# Altium integrated library Altera MAX 7000AE.IntLib: 310 symbols (part 1 of 22)
Pins are listed as number, name and electrical type; pins without a type are passive.

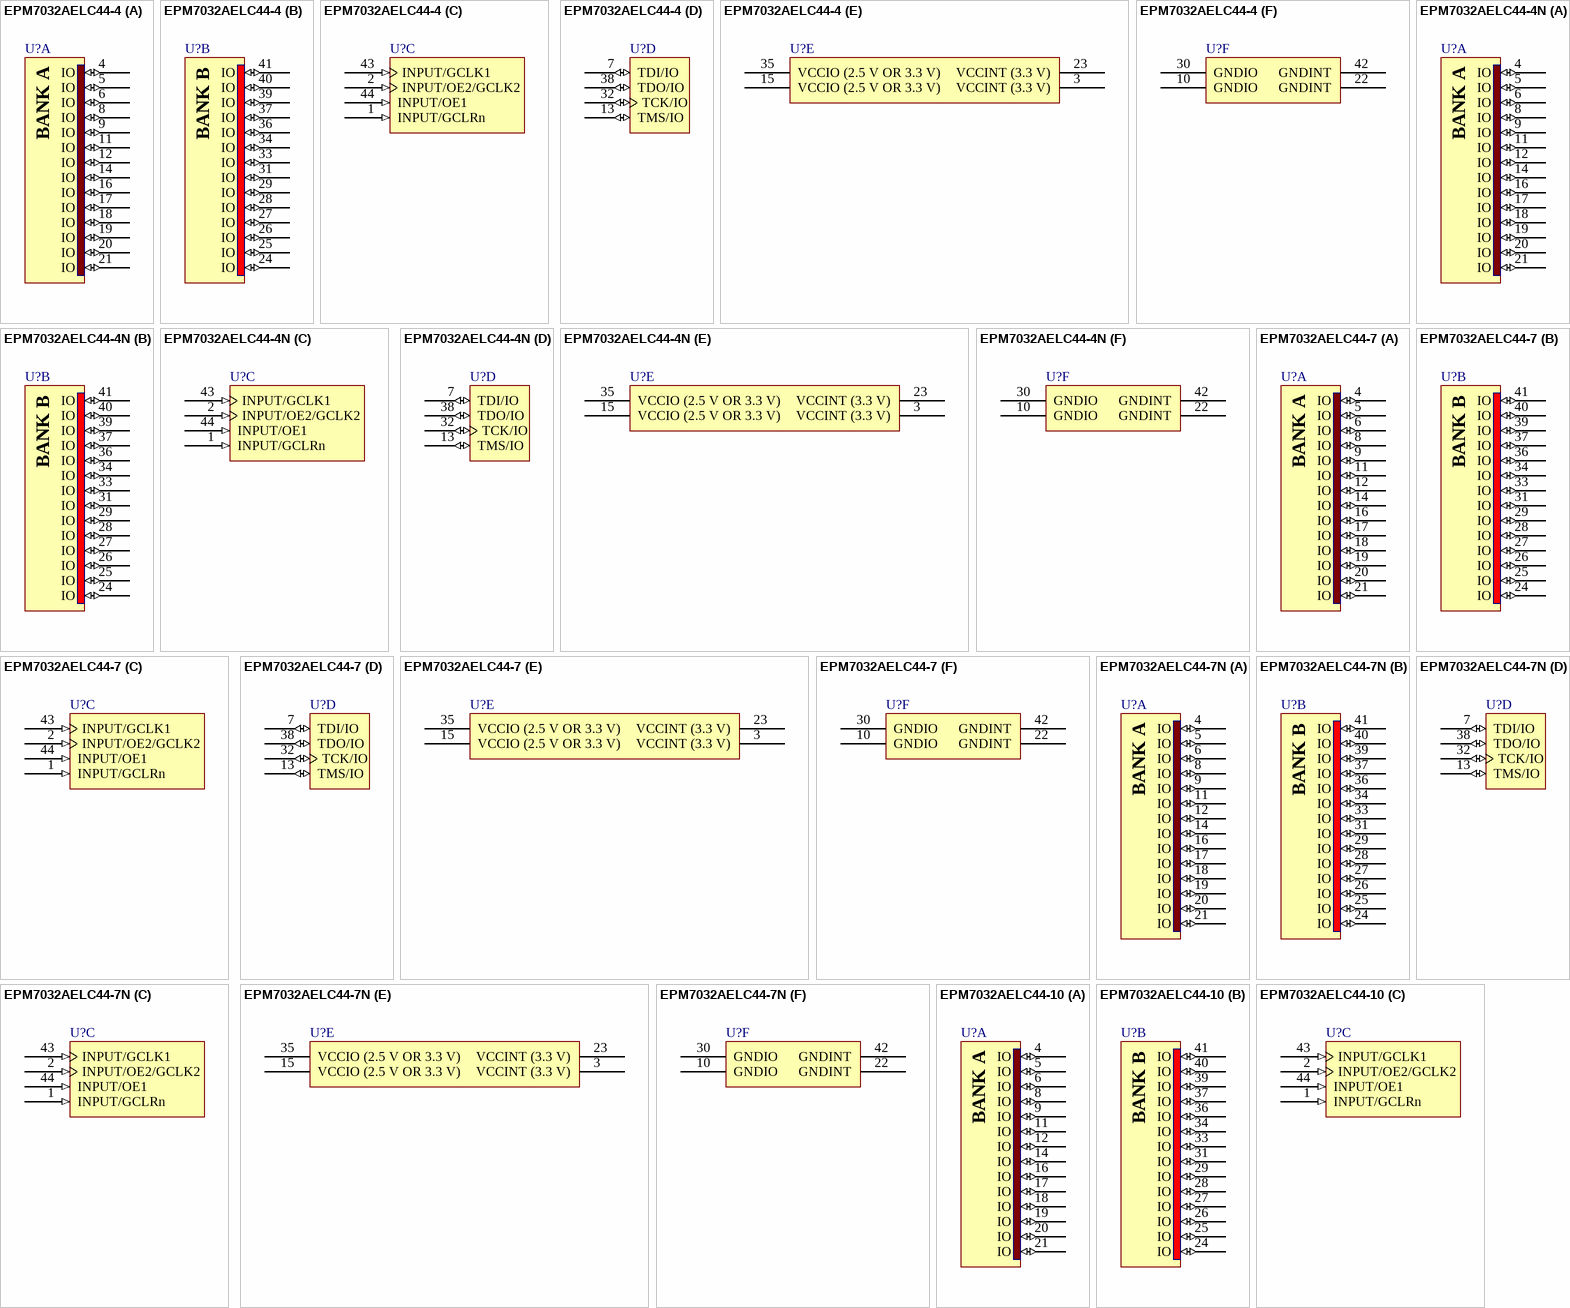
[diagram p0: symbols EPM7032AELC44-4 to EPM7032AELC44-10]

## EPM7032AELC44-4
designator U?
MAX 7000AE 3.3V CPLD, 32 Macrocells, 44-Pin PLCC, Speed Grade 4, Commercial Grade; Published: 23-Sep-2002; LatestRevisionDate: 13-Apr-2006; LatestRevisionNote: IPC-7351 Footprint Added.; DatasheetVersion: ver4.5, Sep-2003; PackageVersion: ver14.3, Jul-2006; PackageReference: PLCC44; Publisher: Altium Limited; PackageDescription: 44-Pin Plastic J-Lead Chip Carrier (PLCC44); Supplier 1: Digi-Key; Supplier Part Number 1: EPM7032AELC44-4-ND; Code_JEDEC: MS-018-AC; Code_IPC: PLCC-44; ComponentLink1Description: Manufacturer Link; ComponentLink1URL: http://www.altera.com/products/devices/max7k/m7k-index.html; ComponentLink2Description: Datasheet; ComponentLink2URL: http://www.altera.com/literature/ds/m7000a.pdf; ComponentLink3Description: Packaging Specification; ComponentLink3URL: http://www.altera.com/literature/ds/dspkg.pdf
footprint PLCC44_N (Leaded Chip Carrier, 44-Leads, Body 16.6x16.6mm, Pitch 1.27mm, IPC Medium Density)
footprint PLCC44_L (Leaded Chip Carrier, 44-Leads, Body 16.6x16.6mm, Pitch 1.27mm, IPC High Density)
footprint PLCC44_M (Leaded Chip Carrier, 44-Leads, Body 16.6x16.6mm, Pitch 1.27mm, IPC Low Density)
3D model EPM7032AE-PLCC44 (44-Pin Plastic J-Lead Chip Carrier (PLCC44))
signal-integrity model max7kae (MAX 7000AE)
part A pins: 4 IO (io), 5 IO (io), 6 IO (io), 8 IO (io), 9 IO (io), 11 IO (io), 12 IO (io), 14 IO (io), 16 IO (io), 17 IO (io), 18 IO (io), 19 IO (io), 20 IO (io), 21 IO (io)
part B pins: 24 IO (io), 25 IO (io), 26 IO (io), 27 IO (io), 28 IO (io), 29 IO (io), 31 IO (io), 33 IO (io), 34 IO (io), 36 IO (io), 37 IO (io), 39 IO (io), 40 IO (io), 41 IO (io)
part C pins: 1 INPUT/GCLRn (in), 2 INPUT/OE2/GCLK2 (in), 43 INPUT/GCLK1 (in), 44 INPUT/OE1 (in)
part D pins: 7 TDI/IO (io), 13 TMS/IO (io), 32 TCK/IO (io), 38 TDO/IO (io)
part E pins: 3 VCCINT (3.3 V) (power), 15 VCCIO (2.5 V OR 3.3 V) (power), 23 VCCINT (3.3 V) (power), 35 VCCIO (2.5 V OR 3.3 V) (power)
part F pins: 10 GNDIO (power), 22 GNDINT (power), 30 GNDIO (power), 42 GNDINT (power)
part A text: BANK A
part B text: BANK B

## EPM7032AELC44-4N
designator U?
MAX 7000AE 3.3V CPLD, 32 Macrocells, 44-Pin PLCC, Speed Grade 4, Commercial Grade, Pb-Free; Published: 18-Aug-2005; LatestRevisionDate: 13-Apr-2006; LatestRevisionNote: IPC-7351 Footprint Added.; DatasheetVersion: ver4.5, Sep-2003; PackageVersion: ver14.3, Jul-2006; PackageReference: PLCC44; Publisher: Altium Limited; PackageDescription: 44-Pin Plastic J-Lead Chip Carrier (PLCC44); Supplier 1: Digi-Key; Supplier Part Number 1: EPM7032AELC44-4N-ND; Code_JEDEC: MS-018-AC; Code_IPC: PLCC-44; ComponentLink1Description: Manufacturer Link; ComponentLink1URL: http://www.altera.com/products/devices/max7k/m7k-index.html; ComponentLink2Description: Datasheet; ComponentLink2URL: http://www.altera.com/literature/ds/m7000a.pdf; ComponentLink3Description: Packaging Specification; ComponentLink3URL: http://www.altera.com/literature/ds/dspkg.pdf
footprint PLCC44_N (Leaded Chip Carrier, 44-Leads, Body 16.6x16.6mm, Pitch 1.27mm, IPC Medium Density)
footprint PLCC44_L (Leaded Chip Carrier, 44-Leads, Body 16.6x16.6mm, Pitch 1.27mm, IPC High Density)
footprint PLCC44_M (Leaded Chip Carrier, 44-Leads, Body 16.6x16.6mm, Pitch 1.27mm, IPC Low Density)
3D model EPM7032AE-PLCC44 (44-Pin Plastic J-Lead Chip Carrier (PLCC44))
signal-integrity model max7kae (MAX 7000AE)
part A pins: 4 IO (io), 5 IO (io), 6 IO (io), 8 IO (io), 9 IO (io), 11 IO (io), 12 IO (io), 14 IO (io), 16 IO (io), 17 IO (io), 18 IO (io), 19 IO (io), 20 IO (io), 21 IO (io)
part B pins: 24 IO (io), 25 IO (io), 26 IO (io), 27 IO (io), 28 IO (io), 29 IO (io), 31 IO (io), 33 IO (io), 34 IO (io), 36 IO (io), 37 IO (io), 39 IO (io), 40 IO (io), 41 IO (io)
part C pins: 1 INPUT/GCLRn (in), 2 INPUT/OE2/GCLK2 (in), 43 INPUT/GCLK1 (in), 44 INPUT/OE1 (in)
part D pins: 7 TDI/IO (io), 13 TMS/IO (io), 32 TCK/IO (io), 38 TDO/IO (io)
part E pins: 3 VCCINT (3.3 V) (power), 15 VCCIO (2.5 V OR 3.3 V) (power), 23 VCCINT (3.3 V) (power), 35 VCCIO (2.5 V OR 3.3 V) (power)
part F pins: 10 GNDIO (power), 22 GNDINT (power), 30 GNDIO (power), 42 GNDINT (power)
part A text: BANK A
part B text: BANK B

## EPM7032AELC44-7
designator U?
MAX 7000AE 3.3V CPLD, 32 Macrocells, 44-Pin PLCC, Speed Grade 7, Commercial Grade; Published: 23-Sep-2002; LatestRevisionDate: 13-Apr-2006; LatestRevisionNote: IPC-7351 Footprint Added.; DatasheetVersion: ver4.5, Sep-2003; PackageVersion: ver14.3, Jul-2006; PackageReference: PLCC44; Publisher: Altium Limited; PackageDescription: 44-Pin Plastic J-Lead Chip Carrier (PLCC44); Supplier 1: Digi-Key; Supplier Part Number 1: 544-1996-ND; Code_JEDEC: MS-018-AC; Code_IPC: PLCC-44; ComponentLink1Description: Manufacturer Link; ComponentLink1URL: http://www.altera.com/products/devices/max7k/m7k-index.html; ComponentLink2Description: Datasheet; ComponentLink2URL: http://www.altera.com/literature/ds/m7000a.pdf; ComponentLink3Description: Packaging Specification; ComponentLink3URL: http://www.altera.com/literature/ds/dspkg.pdf
footprint PLCC44_N (Leaded Chip Carrier, 44-Leads, Body 16.6x16.6mm, Pitch 1.27mm, IPC Medium Density)
footprint PLCC44_L (Leaded Chip Carrier, 44-Leads, Body 16.6x16.6mm, Pitch 1.27mm, IPC High Density)
footprint PLCC44_M (Leaded Chip Carrier, 44-Leads, Body 16.6x16.6mm, Pitch 1.27mm, IPC Low Density)
3D model EPM7032AE-PLCC44 (44-Pin Plastic J-Lead Chip Carrier (PLCC44))
signal-integrity model max7kae (MAX 7000AE)
part A pins: 4 IO (io), 5 IO (io), 6 IO (io), 8 IO (io), 9 IO (io), 11 IO (io), 12 IO (io), 14 IO (io), 16 IO (io), 17 IO (io), 18 IO (io), 19 IO (io), 20 IO (io), 21 IO (io)
part B pins: 24 IO (io), 25 IO (io), 26 IO (io), 27 IO (io), 28 IO (io), 29 IO (io), 31 IO (io), 33 IO (io), 34 IO (io), 36 IO (io), 37 IO (io), 39 IO (io), 40 IO (io), 41 IO (io)
part C pins: 1 INPUT/GCLRn (in), 2 INPUT/OE2/GCLK2 (in), 43 INPUT/GCLK1 (in), 44 INPUT/OE1 (in)
part D pins: 7 TDI/IO (io), 13 TMS/IO (io), 32 TCK/IO (io), 38 TDO/IO (io)
part E pins: 3 VCCINT (3.3 V) (power), 15 VCCIO (2.5 V OR 3.3 V) (power), 23 VCCINT (3.3 V) (power), 35 VCCIO (2.5 V OR 3.3 V) (power)
part F pins: 10 GNDIO (power), 22 GNDINT (power), 30 GNDIO (power), 42 GNDINT (power)
part A text: BANK A
part B text: BANK B

## EPM7032AELC44-7N
designator U?
MAX 7000AE 3.3V CPLD, 32 Macrocells, 44-Pin PLCC, Speed Grade 7, Commercial Grade, Pb-Free; Published: 18-Aug-2005; LatestRevisionDate: 13-Apr-2006; LatestRevisionNote: IPC-7351 Footprint Added.; DatasheetVersion: ver4.5, Sep-2003; PackageVersion: ver14.3, Jul-2006; PackageReference: PLCC44; Publisher: Altium Limited; PackageDescription: 44-Pin Plastic J-Lead Chip Carrier (PLCC44); Supplier 1: Digi-Key; Supplier Part Number 1: EPM7032AELC44-7N-ND; Code_JEDEC: MS-018-AC; Code_IPC: PLCC-44; ComponentLink1Description: Manufacturer Link; ComponentLink1URL: http://www.altera.com/products/devices/max7k/m7k-index.html; ComponentLink2Description: Datasheet; ComponentLink2URL: http://www.altera.com/literature/ds/m7000a.pdf; ComponentLink3Description: Packaging Specification; ComponentLink3URL: http://www.altera.com/literature/ds/dspkg.pdf
footprint PLCC44_N (Leaded Chip Carrier, 44-Leads, Body 16.6x16.6mm, Pitch 1.27mm, IPC Medium Density)
footprint PLCC44_L (Leaded Chip Carrier, 44-Leads, Body 16.6x16.6mm, Pitch 1.27mm, IPC High Density)
footprint PLCC44_M (Leaded Chip Carrier, 44-Leads, Body 16.6x16.6mm, Pitch 1.27mm, IPC Low Density)
3D model EPM7032AE-PLCC44 (44-Pin Plastic J-Lead Chip Carrier (PLCC44))
signal-integrity model max7kae (MAX 7000AE)
part A pins: 4 IO (io), 5 IO (io), 6 IO (io), 8 IO (io), 9 IO (io), 11 IO (io), 12 IO (io), 14 IO (io), 16 IO (io), 17 IO (io), 18 IO (io), 19 IO (io), 20 IO (io), 21 IO (io)
part B pins: 24 IO (io), 25 IO (io), 26 IO (io), 27 IO (io), 28 IO (io), 29 IO (io), 31 IO (io), 33 IO (io), 34 IO (io), 36 IO (io), 37 IO (io), 39 IO (io), 40 IO (io), 41 IO (io)
part C pins: 1 INPUT/GCLRn (in), 2 INPUT/OE2/GCLK2 (in), 43 INPUT/GCLK1 (in), 44 INPUT/OE1 (in)
part D pins: 7 TDI/IO (io), 13 TMS/IO (io), 32 TCK/IO (io), 38 TDO/IO (io)
part E pins: 3 VCCINT (3.3 V) (power), 15 VCCIO (2.5 V OR 3.3 V) (power), 23 VCCINT (3.3 V) (power), 35 VCCIO (2.5 V OR 3.3 V) (power)
part F pins: 10 GNDIO (power), 22 GNDINT (power), 30 GNDIO (power), 42 GNDINT (power)
part A text: BANK A
part B text: BANK B

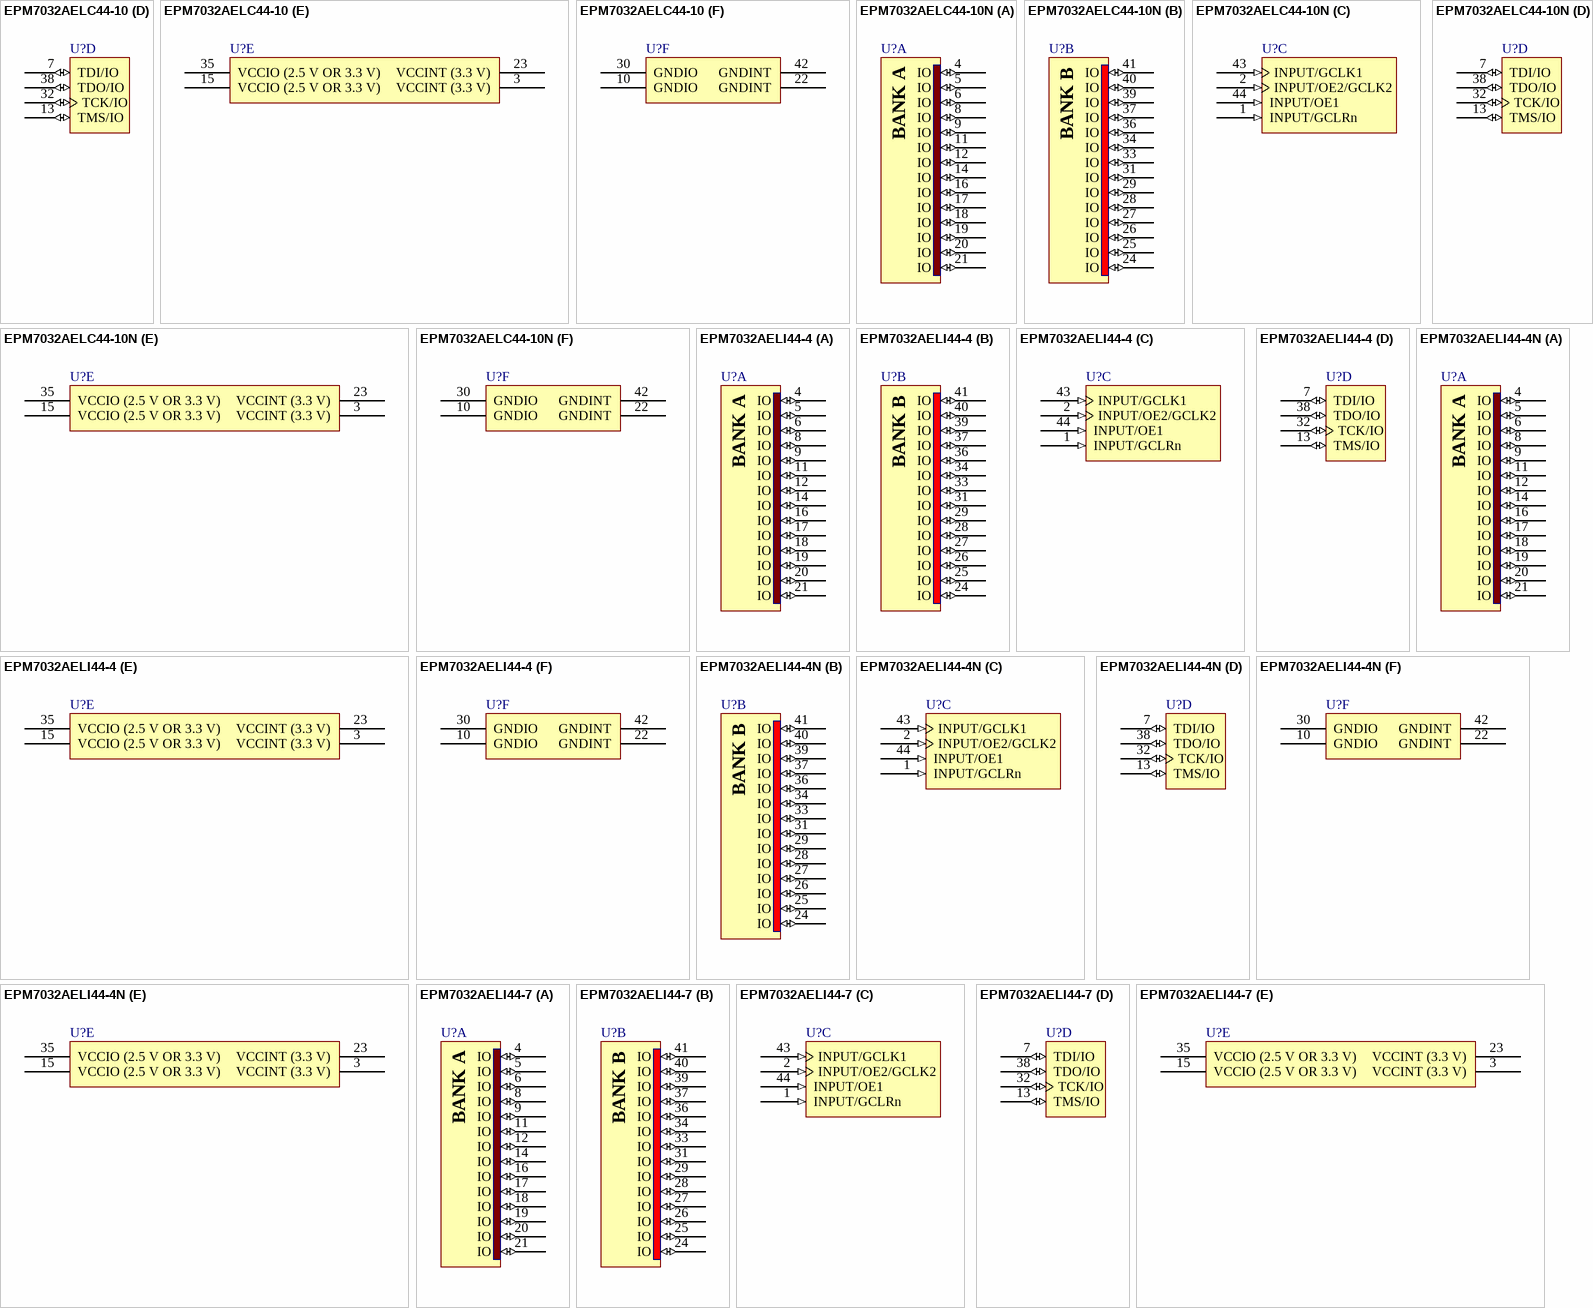
[diagram p1: symbols EPM7032AELC44-10 to EPM7032AELI44-7]

## EPM7032AELC44-10
designator U?
MAX 7000AE 3.3V CPLD, 32 Macrocells, 44-Pin PLCC, Speed Grade 10, Commercial Grade; Published: 23-Sep-2002; LatestRevisionDate: 13-Apr-2006; LatestRevisionNote: IPC-7351 Footprint Added.; DatasheetVersion: ver4.5, Sep-2003; PackageVersion: ver14.3, Jul-2006; PackageReference: PLCC44; Publisher: Altium Limited; PackageDescription: 44-Pin Plastic J-Lead Chip Carrier (PLCC44); Supplier 1: Digi-Key; Supplier Part Number 1: 544-1177-5-ND; Code_JEDEC: MS-018-AC; Code_IPC: PLCC-44; ComponentLink1Description: Manufacturer Link; ComponentLink1URL: http://www.altera.com/products/devices/max7k/m7k-index.html; ComponentLink2Description: Datasheet; ComponentLink2URL: http://www.altera.com/literature/ds/m7000a.pdf; ComponentLink3Description: Packaging Specification; ComponentLink3URL: http://www.altera.com/literature/ds/dspkg.pdf
footprint PLCC44_N (Leaded Chip Carrier, 44-Leads, Body 16.6x16.6mm, Pitch 1.27mm, IPC Medium Density)
footprint PLCC44_L (Leaded Chip Carrier, 44-Leads, Body 16.6x16.6mm, Pitch 1.27mm, IPC High Density)
footprint PLCC44_M (Leaded Chip Carrier, 44-Leads, Body 16.6x16.6mm, Pitch 1.27mm, IPC Low Density)
3D model EPM7032AE-PLCC44 (44-Pin Plastic J-Lead Chip Carrier (PLCC44))
signal-integrity model max7kae (MAX 7000AE)
part A pins: 4 IO (io), 5 IO (io), 6 IO (io), 8 IO (io), 9 IO (io), 11 IO (io), 12 IO (io), 14 IO (io), 16 IO (io), 17 IO (io), 18 IO (io), 19 IO (io), 20 IO (io), 21 IO (io)
part B pins: 24 IO (io), 25 IO (io), 26 IO (io), 27 IO (io), 28 IO (io), 29 IO (io), 31 IO (io), 33 IO (io), 34 IO (io), 36 IO (io), 37 IO (io), 39 IO (io), 40 IO (io), 41 IO (io)
part C pins: 1 INPUT/GCLRn (in), 2 INPUT/OE2/GCLK2 (in), 43 INPUT/GCLK1 (in), 44 INPUT/OE1 (in)
part D pins: 7 TDI/IO (io), 13 TMS/IO (io), 32 TCK/IO (io), 38 TDO/IO (io)
part E pins: 3 VCCINT (3.3 V) (power), 15 VCCIO (2.5 V OR 3.3 V) (power), 23 VCCINT (3.3 V) (power), 35 VCCIO (2.5 V OR 3.3 V) (power)
part F pins: 10 GNDIO (power), 22 GNDINT (power), 30 GNDIO (power), 42 GNDINT (power)
part A text: BANK A
part B text: BANK B

## EPM7032AELC44-10N
designator U?
MAX 7000AE 3.3V CPLD, 32 Macrocells, 44-Pin PLCC, Speed Grade 10, Commercial Grade, Pb-Free; Published: 18-Aug-2005; LatestRevisionDate: 13-Apr-2006; LatestRevisionNote: IPC-7351 Footprint Added.; DatasheetVersion: ver4.5, Sep-2003; PackageVersion: ver14.3, Jul-2006; PackageReference: PLCC44; Publisher: Altium Limited; PackageDescription: 44-Pin Plastic J-Lead Chip Carrier (PLCC44); Supplier 1: Digi-Key; Supplier Part Number 1: 544-1995-ND; Code_JEDEC: MS-018-AC; Code_IPC: PLCC-44; ComponentLink1Description: Manufacturer Link; ComponentLink1URL: http://www.altera.com/products/devices/max7k/m7k-index.html; ComponentLink2Description: Datasheet; ComponentLink2URL: http://www.altera.com/literature/ds/m7000a.pdf; ComponentLink3Description: Packaging Specification; ComponentLink3URL: http://www.altera.com/literature/ds/dspkg.pdf
footprint PLCC44_N (Leaded Chip Carrier, 44-Leads, Body 16.6x16.6mm, Pitch 1.27mm, IPC Medium Density)
footprint PLCC44_L (Leaded Chip Carrier, 44-Leads, Body 16.6x16.6mm, Pitch 1.27mm, IPC High Density)
footprint PLCC44_M (Leaded Chip Carrier, 44-Leads, Body 16.6x16.6mm, Pitch 1.27mm, IPC Low Density)
3D model EPM7032AE-PLCC44 (44-Pin Plastic J-Lead Chip Carrier (PLCC44))
signal-integrity model max7kae (MAX 7000AE)
part A pins: 4 IO (io), 5 IO (io), 6 IO (io), 8 IO (io), 9 IO (io), 11 IO (io), 12 IO (io), 14 IO (io), 16 IO (io), 17 IO (io), 18 IO (io), 19 IO (io), 20 IO (io), 21 IO (io)
part B pins: 24 IO (io), 25 IO (io), 26 IO (io), 27 IO (io), 28 IO (io), 29 IO (io), 31 IO (io), 33 IO (io), 34 IO (io), 36 IO (io), 37 IO (io), 39 IO (io), 40 IO (io), 41 IO (io)
part C pins: 1 INPUT/GCLRn (in), 2 INPUT/OE2/GCLK2 (in), 43 INPUT/GCLK1 (in), 44 INPUT/OE1 (in)
part D pins: 7 TDI/IO (io), 13 TMS/IO (io), 32 TCK/IO (io), 38 TDO/IO (io)
part E pins: 3 VCCINT (3.3 V) (power), 15 VCCIO (2.5 V OR 3.3 V) (power), 23 VCCINT (3.3 V) (power), 35 VCCIO (2.5 V OR 3.3 V) (power)
part F pins: 10 GNDIO (power), 22 GNDINT (power), 30 GNDIO (power), 42 GNDINT (power)
part A text: BANK A
part B text: BANK B

## EPM7032AELI44-4
designator U?
MAX 7000AE 3.3V CPLD, 32 Macrocells, 44-Pin PLCC, Speed Grade 4, Industrial Grade; Published: 18-Aug-2005; LatestRevisionDate: 13-Apr-2006; LatestRevisionNote: IPC-7351 Footprint Added.; DatasheetVersion: ver4.5, Sep-2003; PackageVersion: ver14.3, Jul-2006; PackageReference: PLCC44; Publisher: Altium Limited; PackageDescription: 44-Pin Plastic J-Lead Chip Carrier (PLCC44); Code_JEDEC: MS-018-AC; Code_IPC: PLCC-44; ComponentLink1Description: Manufacturer Link; ComponentLink1URL: http://www.altera.com/products/devices/max7k/m7k-index.html; ComponentLink2Description: Datasheet; ComponentLink2URL: http://www.altera.com/literature/ds/m7000a.pdf; ComponentLink3Description: Packaging Specification; ComponentLink3URL: http://www.altera.com/literature/ds/dspkg.pdf
footprint PLCC44_N (Leaded Chip Carrier, 44-Leads, Body 16.6x16.6mm, Pitch 1.27mm, IPC Medium Density)
footprint PLCC44_L (Leaded Chip Carrier, 44-Leads, Body 16.6x16.6mm, Pitch 1.27mm, IPC High Density)
footprint PLCC44_M (Leaded Chip Carrier, 44-Leads, Body 16.6x16.6mm, Pitch 1.27mm, IPC Low Density)
3D model EPM7032AE-PLCC44 (44-Pin Plastic J-Lead Chip Carrier (PLCC44))
signal-integrity model max7kae (MAX 7000AE)
part A pins: 4 IO (io), 5 IO (io), 6 IO (io), 8 IO (io), 9 IO (io), 11 IO (io), 12 IO (io), 14 IO (io), 16 IO (io), 17 IO (io), 18 IO (io), 19 IO (io), 20 IO (io), 21 IO (io)
part B pins: 24 IO (io), 25 IO (io), 26 IO (io), 27 IO (io), 28 IO (io), 29 IO (io), 31 IO (io), 33 IO (io), 34 IO (io), 36 IO (io), 37 IO (io), 39 IO (io), 40 IO (io), 41 IO (io)
part C pins: 1 INPUT/GCLRn (in), 2 INPUT/OE2/GCLK2 (in), 43 INPUT/GCLK1 (in), 44 INPUT/OE1 (in)
part D pins: 7 TDI/IO (io), 13 TMS/IO (io), 32 TCK/IO (io), 38 TDO/IO (io)
part E pins: 3 VCCINT (3.3 V) (power), 15 VCCIO (2.5 V OR 3.3 V) (power), 23 VCCINT (3.3 V) (power), 35 VCCIO (2.5 V OR 3.3 V) (power)
part F pins: 10 GNDIO (power), 22 GNDINT (power), 30 GNDIO (power), 42 GNDINT (power)
part A text: BANK A
part B text: BANK B

## EPM7032AELI44-4N
designator U?
MAX 7000AE 3.3V CPLD, 32 Macrocells, 44-Pin PLCC, Speed Grade 4, Industrial Grade, Pb-Free; Published: 18-Aug-2005; LatestRevisionDate: 13-Apr-2006; LatestRevisionNote: IPC-7351 Footprint Added.; DatasheetVersion: ver4.5, Sep-2003; PackageVersion: ver14.3, Jul-2006; PackageReference: PLCC44; Publisher: Altium Limited; PackageDescription: 44-Pin Plastic J-Lead Chip Carrier (PLCC44); Code_JEDEC: MS-018-AC; Code_IPC: PLCC-44; ComponentLink1Description: Manufacturer Link; ComponentLink1URL: http://www.altera.com/products/devices/max7k/m7k-index.html; ComponentLink2Description: Datasheet; ComponentLink2URL: http://www.altera.com/literature/ds/m7000a.pdf; ComponentLink3Description: Packaging Specification; ComponentLink3URL: http://www.altera.com/literature/ds/dspkg.pdf
footprint PLCC44_N (Leaded Chip Carrier, 44-Leads, Body 16.6x16.6mm, Pitch 1.27mm, IPC Medium Density)
footprint PLCC44_L (Leaded Chip Carrier, 44-Leads, Body 16.6x16.6mm, Pitch 1.27mm, IPC High Density)
footprint PLCC44_M (Leaded Chip Carrier, 44-Leads, Body 16.6x16.6mm, Pitch 1.27mm, IPC Low Density)
3D model EPM7032AE-PLCC44 (44-Pin Plastic J-Lead Chip Carrier (PLCC44))
signal-integrity model max7kae (MAX 7000AE)
part A pins: 4 IO (io), 5 IO (io), 6 IO (io), 8 IO (io), 9 IO (io), 11 IO (io), 12 IO (io), 14 IO (io), 16 IO (io), 17 IO (io), 18 IO (io), 19 IO (io), 20 IO (io), 21 IO (io)
part B pins: 24 IO (io), 25 IO (io), 26 IO (io), 27 IO (io), 28 IO (io), 29 IO (io), 31 IO (io), 33 IO (io), 34 IO (io), 36 IO (io), 37 IO (io), 39 IO (io), 40 IO (io), 41 IO (io)
part C pins: 1 INPUT/GCLRn (in), 2 INPUT/OE2/GCLK2 (in), 43 INPUT/GCLK1 (in), 44 INPUT/OE1 (in)
part D pins: 7 TDI/IO (io), 13 TMS/IO (io), 32 TCK/IO (io), 38 TDO/IO (io)
part E pins: 3 VCCINT (3.3 V) (power), 15 VCCIO (2.5 V OR 3.3 V) (power), 23 VCCINT (3.3 V) (power), 35 VCCIO (2.5 V OR 3.3 V) (power)
part F pins: 10 GNDIO (power), 22 GNDINT (power), 30 GNDIO (power), 42 GNDINT (power)
part A text: BANK A
part B text: BANK B

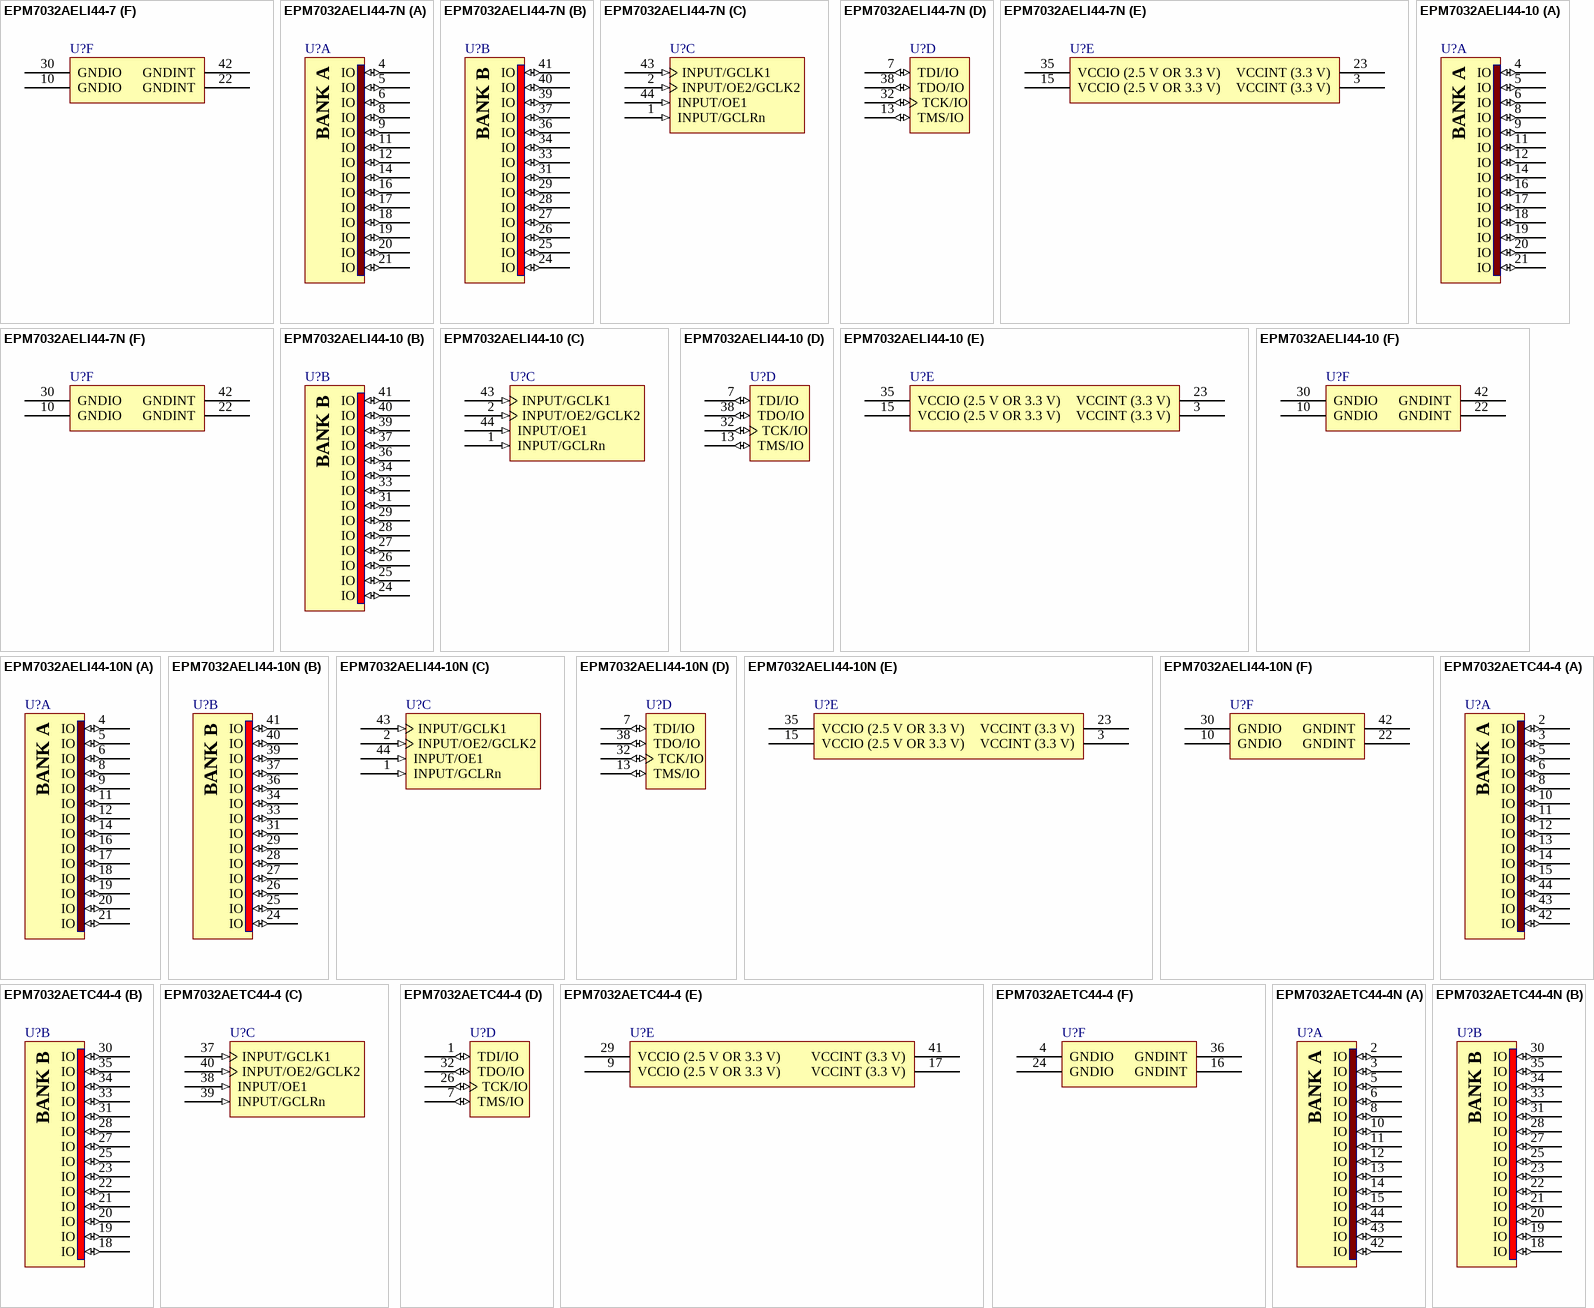
[diagram p2: symbols EPM7032AELI44-7 to EPM7032AETC44-4N]

## EPM7032AELI44-7
designator U?
MAX 7000AE 3.3V CPLD, 32 Macrocells, 44-Pin PLCC, Speed Grade 7, Industrial Grade; Published: 18-Aug-2005; LatestRevisionDate: 13-Apr-2006; LatestRevisionNote: IPC-7351 Footprint Added.; DatasheetVersion: ver4.5, Sep-2003; PackageVersion: ver14.3, Jul-2006; PackageReference: PLCC44; Publisher: Altium Limited; PackageDescription: 44-Pin Plastic J-Lead Chip Carrier (PLCC44); Code_JEDEC: MS-018-AC; Code_IPC: PLCC-44; ComponentLink1Description: Manufacturer Link; ComponentLink1URL: http://www.altera.com/products/devices/max7k/m7k-index.html; ComponentLink2Description: Datasheet; ComponentLink2URL: http://www.altera.com/literature/ds/m7000a.pdf; ComponentLink3Description: Packaging Specification; ComponentLink3URL: http://www.altera.com/literature/ds/dspkg.pdf
footprint PLCC44_N (Leaded Chip Carrier, 44-Leads, Body 16.6x16.6mm, Pitch 1.27mm, IPC Medium Density)
footprint PLCC44_L (Leaded Chip Carrier, 44-Leads, Body 16.6x16.6mm, Pitch 1.27mm, IPC High Density)
footprint PLCC44_M (Leaded Chip Carrier, 44-Leads, Body 16.6x16.6mm, Pitch 1.27mm, IPC Low Density)
3D model EPM7032AE-PLCC44 (44-Pin Plastic J-Lead Chip Carrier (PLCC44))
signal-integrity model max7kae (MAX 7000AE)
part A pins: 4 IO (io), 5 IO (io), 6 IO (io), 8 IO (io), 9 IO (io), 11 IO (io), 12 IO (io), 14 IO (io), 16 IO (io), 17 IO (io), 18 IO (io), 19 IO (io), 20 IO (io), 21 IO (io)
part B pins: 24 IO (io), 25 IO (io), 26 IO (io), 27 IO (io), 28 IO (io), 29 IO (io), 31 IO (io), 33 IO (io), 34 IO (io), 36 IO (io), 37 IO (io), 39 IO (io), 40 IO (io), 41 IO (io)
part C pins: 1 INPUT/GCLRn (in), 2 INPUT/OE2/GCLK2 (in), 43 INPUT/GCLK1 (in), 44 INPUT/OE1 (in)
part D pins: 7 TDI/IO (io), 13 TMS/IO (io), 32 TCK/IO (io), 38 TDO/IO (io)
part E pins: 3 VCCINT (3.3 V) (power), 15 VCCIO (2.5 V OR 3.3 V) (power), 23 VCCINT (3.3 V) (power), 35 VCCIO (2.5 V OR 3.3 V) (power)
part F pins: 10 GNDIO (power), 22 GNDINT (power), 30 GNDIO (power), 42 GNDINT (power)
part A text: BANK A
part B text: BANK B

## EPM7032AELI44-7N
designator U?
MAX 7000AE 3.3V CPLD, 32 Macrocells, 44-Pin PLCC, Speed Grade 7, Industrial Grade, Pb-Free; Published: 18-Aug-2005; LatestRevisionDate: 13-Apr-2006; LatestRevisionNote: IPC-7351 Footprint Added.; DatasheetVersion: ver4.5, Sep-2003; PackageVersion: ver14.3, Jul-2006; PackageReference: PLCC44; Publisher: Altium Limited; PackageDescription: 44-Pin Plastic J-Lead Chip Carrier (PLCC44); Code_JEDEC: MS-018-AC; Code_IPC: PLCC-44; ComponentLink1Description: Manufacturer Link; ComponentLink1URL: http://www.altera.com/products/devices/max7k/m7k-index.html; ComponentLink2Description: Datasheet; ComponentLink2URL: http://www.altera.com/literature/ds/m7000a.pdf; ComponentLink3Description: Packaging Specification; ComponentLink3URL: http://www.altera.com/literature/ds/dspkg.pdf
footprint PLCC44_N (Leaded Chip Carrier, 44-Leads, Body 16.6x16.6mm, Pitch 1.27mm, IPC Medium Density)
footprint PLCC44_L (Leaded Chip Carrier, 44-Leads, Body 16.6x16.6mm, Pitch 1.27mm, IPC High Density)
footprint PLCC44_M (Leaded Chip Carrier, 44-Leads, Body 16.6x16.6mm, Pitch 1.27mm, IPC Low Density)
3D model EPM7032AE-PLCC44 (44-Pin Plastic J-Lead Chip Carrier (PLCC44))
signal-integrity model max7kae (MAX 7000AE)
part A pins: 4 IO (io), 5 IO (io), 6 IO (io), 8 IO (io), 9 IO (io), 11 IO (io), 12 IO (io), 14 IO (io), 16 IO (io), 17 IO (io), 18 IO (io), 19 IO (io), 20 IO (io), 21 IO (io)
part B pins: 24 IO (io), 25 IO (io), 26 IO (io), 27 IO (io), 28 IO (io), 29 IO (io), 31 IO (io), 33 IO (io), 34 IO (io), 36 IO (io), 37 IO (io), 39 IO (io), 40 IO (io), 41 IO (io)
part C pins: 1 INPUT/GCLRn (in), 2 INPUT/OE2/GCLK2 (in), 43 INPUT/GCLK1 (in), 44 INPUT/OE1 (in)
part D pins: 7 TDI/IO (io), 13 TMS/IO (io), 32 TCK/IO (io), 38 TDO/IO (io)
part E pins: 3 VCCINT (3.3 V) (power), 15 VCCIO (2.5 V OR 3.3 V) (power), 23 VCCINT (3.3 V) (power), 35 VCCIO (2.5 V OR 3.3 V) (power)
part F pins: 10 GNDIO (power), 22 GNDINT (power), 30 GNDIO (power), 42 GNDINT (power)
part A text: BANK A
part B text: BANK B

## EPM7032AELI44-10
designator U?
MAX 7000AE 3.3V CPLD, 32 Macrocells, 44-Pin PLCC, Speed Grade 10, Industrial Grade; Published: 18-Aug-2005; LatestRevisionDate: 13-Apr-2006; LatestRevisionNote: IPC-7351 Footprint Added.; DatasheetVersion: ver4.5, Sep-2003; PackageVersion: ver14.3, Jul-2006; PackageReference: PLCC44; Publisher: Altium Limited; PackageDescription: 44-Pin Plastic J-Lead Chip Carrier (PLCC44); Code_JEDEC: MS-018-AC; Code_IPC: PLCC-44; ComponentLink1Description: Manufacturer Link; ComponentLink1URL: http://www.altera.com/products/devices/max7k/m7k-index.html; ComponentLink2Description: Datasheet; ComponentLink2URL: http://www.altera.com/literature/ds/m7000a.pdf; ComponentLink3Description: Packaging Specification; ComponentLink3URL: http://www.altera.com/literature/ds/dspkg.pdf
footprint PLCC44_N (Leaded Chip Carrier, 44-Leads, Body 16.6x16.6mm, Pitch 1.27mm, IPC Medium Density)
footprint PLCC44_L (Leaded Chip Carrier, 44-Leads, Body 16.6x16.6mm, Pitch 1.27mm, IPC High Density)
footprint PLCC44_M (Leaded Chip Carrier, 44-Leads, Body 16.6x16.6mm, Pitch 1.27mm, IPC Low Density)
3D model EPM7032AE-PLCC44 (44-Pin Plastic J-Lead Chip Carrier (PLCC44))
signal-integrity model max7kae (MAX 7000AE)
part A pins: 4 IO (io), 5 IO (io), 6 IO (io), 8 IO (io), 9 IO (io), 11 IO (io), 12 IO (io), 14 IO (io), 16 IO (io), 17 IO (io), 18 IO (io), 19 IO (io), 20 IO (io), 21 IO (io)
part B pins: 24 IO (io), 25 IO (io), 26 IO (io), 27 IO (io), 28 IO (io), 29 IO (io), 31 IO (io), 33 IO (io), 34 IO (io), 36 IO (io), 37 IO (io), 39 IO (io), 40 IO (io), 41 IO (io)
part C pins: 1 INPUT/GCLRn (in), 2 INPUT/OE2/GCLK2 (in), 43 INPUT/GCLK1 (in), 44 INPUT/OE1 (in)
part D pins: 7 TDI/IO (io), 13 TMS/IO (io), 32 TCK/IO (io), 38 TDO/IO (io)
part E pins: 3 VCCINT (3.3 V) (power), 15 VCCIO (2.5 V OR 3.3 V) (power), 23 VCCINT (3.3 V) (power), 35 VCCIO (2.5 V OR 3.3 V) (power)
part F pins: 10 GNDIO (power), 22 GNDINT (power), 30 GNDIO (power), 42 GNDINT (power)
part A text: BANK A
part B text: BANK B

## EPM7032AELI44-10N
designator U?
MAX 7000AE 3.3V CPLD, 32 Macrocells, 44-Pin PLCC, Speed Grade 10, Industrial Grade, Pb-Free; Published: 18-Aug-2005; LatestRevisionDate: 13-Apr-2006; LatestRevisionNote: IPC-7351 Footprint Added.; DatasheetVersion: ver4.5, Sep-2003; PackageVersion: ver14.3, Jul-2006; PackageReference: PLCC44; Publisher: Altium Limited; PackageDescription: 44-Pin Plastic J-Lead Chip Carrier (PLCC44); Code_JEDEC: MS-018-AC; Code_IPC: PLCC-44; ComponentLink1Description: Manufacturer Link; ComponentLink1URL: http://www.altera.com/products/devices/max7k/m7k-index.html; ComponentLink2Description: Datasheet; ComponentLink2URL: http://www.altera.com/literature/ds/m7000a.pdf; ComponentLink3Description: Packaging Specification; ComponentLink3URL: http://www.altera.com/literature/ds/dspkg.pdf
footprint PLCC44_N (Leaded Chip Carrier, 44-Leads, Body 16.6x16.6mm, Pitch 1.27mm, IPC Medium Density)
footprint PLCC44_L (Leaded Chip Carrier, 44-Leads, Body 16.6x16.6mm, Pitch 1.27mm, IPC High Density)
footprint PLCC44_M (Leaded Chip Carrier, 44-Leads, Body 16.6x16.6mm, Pitch 1.27mm, IPC Low Density)
3D model EPM7032AE-PLCC44 (44-Pin Plastic J-Lead Chip Carrier (PLCC44))
signal-integrity model max7kae (MAX 7000AE)
part A pins: 4 IO (io), 5 IO (io), 6 IO (io), 8 IO (io), 9 IO (io), 11 IO (io), 12 IO (io), 14 IO (io), 16 IO (io), 17 IO (io), 18 IO (io), 19 IO (io), 20 IO (io), 21 IO (io)
part B pins: 24 IO (io), 25 IO (io), 26 IO (io), 27 IO (io), 28 IO (io), 29 IO (io), 31 IO (io), 33 IO (io), 34 IO (io), 36 IO (io), 37 IO (io), 39 IO (io), 40 IO (io), 41 IO (io)
part C pins: 1 INPUT/GCLRn (in), 2 INPUT/OE2/GCLK2 (in), 43 INPUT/GCLK1 (in), 44 INPUT/OE1 (in)
part D pins: 7 TDI/IO (io), 13 TMS/IO (io), 32 TCK/IO (io), 38 TDO/IO (io)
part E pins: 3 VCCINT (3.3 V) (power), 15 VCCIO (2.5 V OR 3.3 V) (power), 23 VCCINT (3.3 V) (power), 35 VCCIO (2.5 V OR 3.3 V) (power)
part F pins: 10 GNDIO (power), 22 GNDINT (power), 30 GNDIO (power), 42 GNDINT (power)
part A text: BANK A
part B text: BANK B

## EPM7032AETC44-4
designator U?
MAX 7000AE 3.3V CPLD, 32 Macrocells, 44-Pin TQFP, Speed Grade 4, Commercial Grade; Published: 23-Sep-2002; LatestRevisionDate: 13-Apr-2006; LatestRevisionNote: IPC-7351 Footprint Added.; DatasheetVersion: ver4.5, Sep-2003; PackageVersion: ver14.3, Jul-2006; PackageReference: TQFP44; Publisher: Altium Limited; PackageDescription: 44-Pin Plastic Thin Quad Flat Pack (TFQP44); Supplier 1: Digi-Key; Supplier Part Number 1: 544-1179-ND; Code_JEDEC: MS-026-ACB; ComponentLink1Description: Manufacturer Link; ComponentLink1URL: http://www.altera.com/products/devices/max7k/m7k-index.html; ComponentLink2Description: Datasheet; ComponentLink2URL: http://www.altera.com/literature/ds/m7000a.pdf; ComponentLink3Description: Packaging Specification; ComponentLink3URL: http://www.altera.com/literature/ds/dspkg.pdf
footprint TQFP44_N (Thin QFP, 44-Leads, Body 10x10mm, Pitch 0.8mm, IPC Medium Density)
footprint TQFP44_L (Thin QFP, 44-Leads, Body 10x10mm, Pitch 0.8mm, IPC High Density)
footprint TQFP44_M (Thin QFP, 44-Leads, Body 10x10mm, Pitch 0.8mm, IPC Low Density)
3D model EPM7032AE-TQFP44 (44-Pin Plastic Thin Quad Flat Pack (TFQP44))
signal-integrity model max7kae (MAX 7000AE)
part A pins: 2 IO (io), 3 IO (io), 5 IO (io), 6 IO (io), 8 IO (io), 10 IO (io), 11 IO (io), 12 IO (io), 13 IO (io), 14 IO (io), 15 IO (io), 42 IO (io), 43 IO (io), 44 IO (io)
part B pins: 18 IO (io), 19 IO (io), 20 IO (io), 21 IO (io), 22 IO (io), 23 IO (io), 25 IO (io), 27 IO (io), 28 IO (io), 30 IO (io), 31 IO (io), 33 IO (io), 34 IO (io), 35 IO (io)
part C pins: 37 INPUT/GCLK1 (in), 38 INPUT/OE1 (in), 39 INPUT/GCLRn (in), 40 INPUT/OE2/GCLK2 (in)
part D pins: 1 TDI/IO (io), 7 TMS/IO (io), 26 TCK/IO (io), 32 TDO/IO (io)
part E pins: 9 VCCIO (2.5 V OR 3.3 V) (power), 17 VCCINT (3.3 V) (power), 29 VCCIO (2.5 V OR 3.3 V) (power), 41 VCCINT (3.3 V) (power)
part F pins: 4 GNDIO (power), 16 GNDINT (power), 24 GNDIO (power), 36 GNDINT (power)
part A text: BANK A
part B text: BANK B

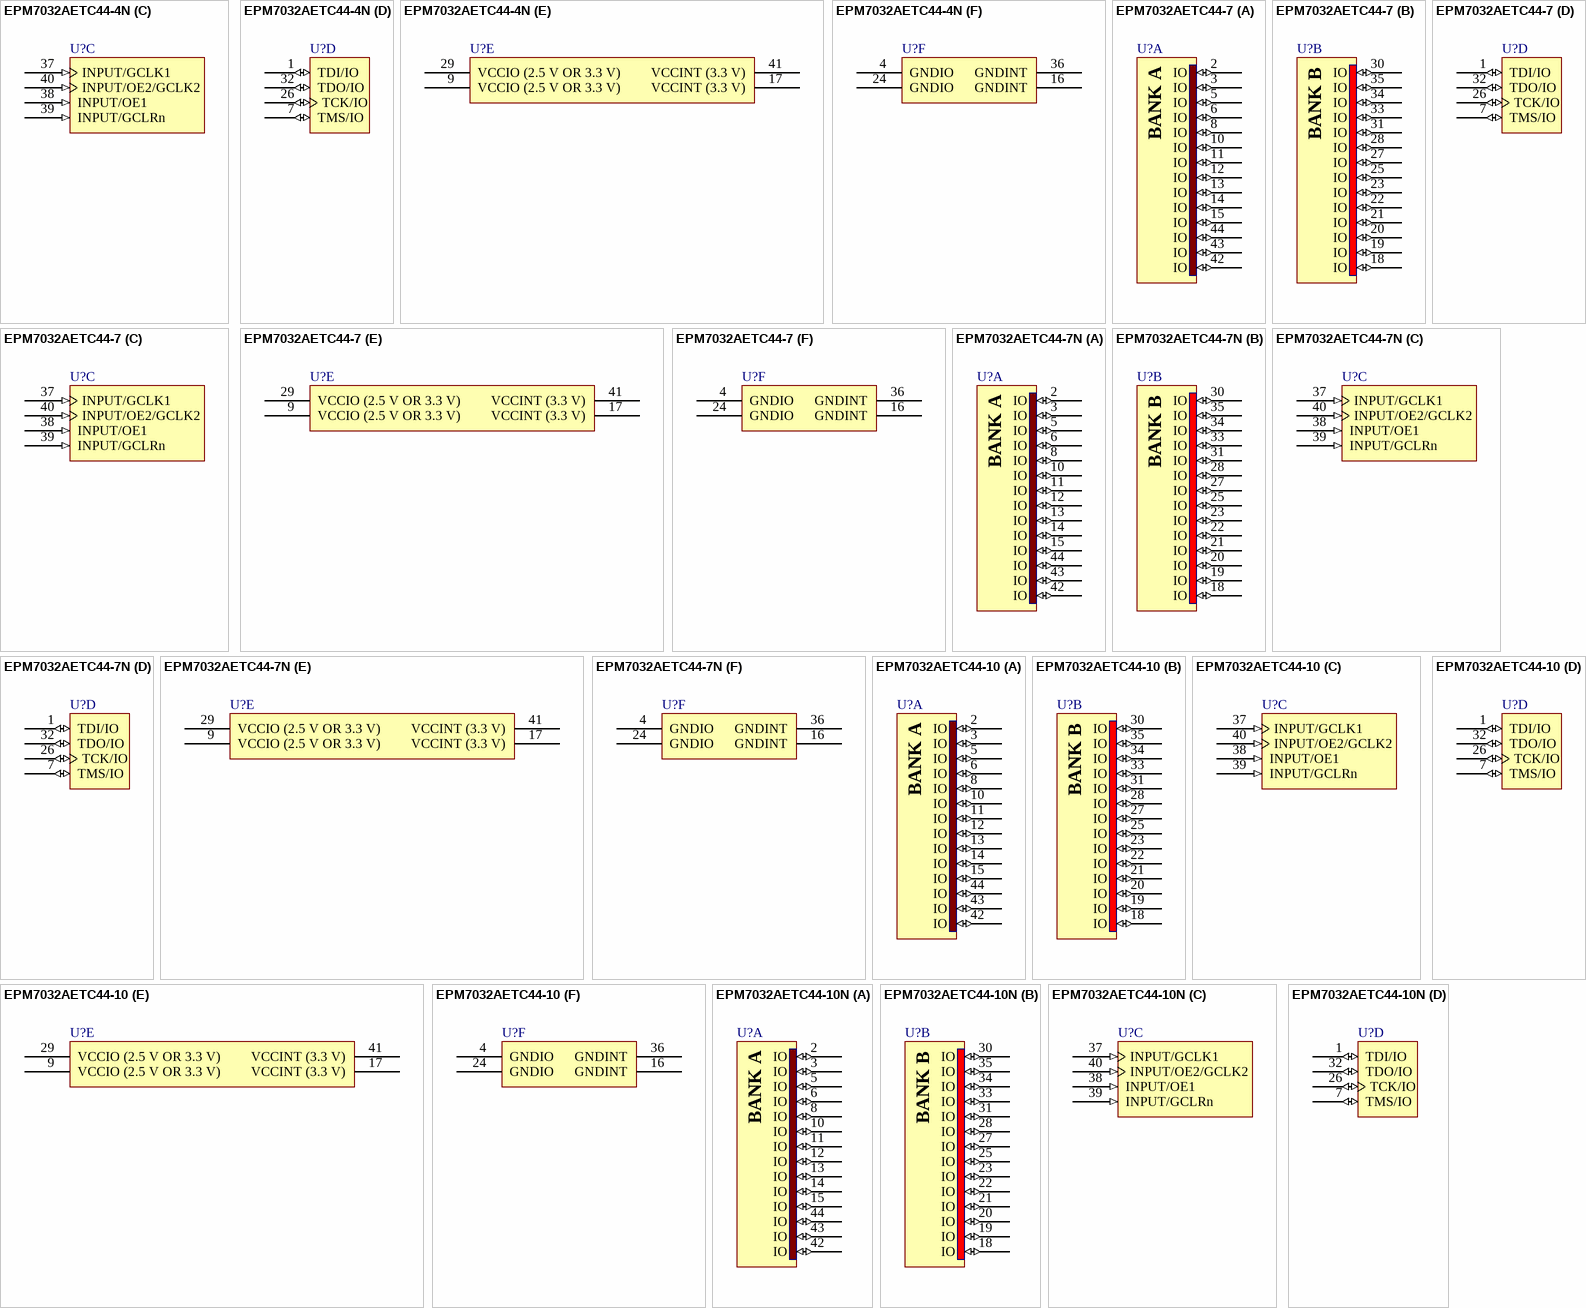
[diagram p3: symbols EPM7032AETC44-4N to EPM7032AETC44-10N]

## EPM7032AETC44-4N
designator U?
MAX 7000AE 3.3V CPLD, 32 Macrocells, 44-Pin TQFP, Speed Grade 4, Commercial Grade, Pb-Free; Published: 4-Mar-2005; LatestRevisionDate: 13-Apr-2006; LatestRevisionNote: IPC-7351 Footprint Added.; DatasheetVersion: ver4.5, Sep-2003; PackageVersion: ver14.3, Jul-2006; PackageReference: TQFP44; Publisher: Altium Limited; PackageDescription: 44-Pin Plastic Thin Quad Flat Pack (TFQP44); Supplier 1: Digi-Key; Supplier Part Number 1: 544-1998-ND; Code_JEDEC: MS-026-ACB; ComponentLink1Description: Manufacturer Link; ComponentLink1URL: http://www.altera.com/products/devices/max7k/m7k-index.html; ComponentLink2Description: Datasheet; ComponentLink2URL: http://www.altera.com/literature/ds/m7000a.pdf; ComponentLink3Description: Packaging Specification; ComponentLink3URL: http://www.altera.com/literature/ds/dspkg.pdf
footprint TQFP44_N (Thin QFP, 44-Leads, Body 10x10mm, Pitch 0.8mm, IPC Medium Density)
footprint TQFP44_L (Thin QFP, 44-Leads, Body 10x10mm, Pitch 0.8mm, IPC High Density)
footprint TQFP44_M (Thin QFP, 44-Leads, Body 10x10mm, Pitch 0.8mm, IPC Low Density)
3D model EPM7032AE-TQFP44 (44-Pin Plastic Thin Quad Flat Pack (TFQP44))
signal-integrity model max7kae (MAX 7000AE)
part A pins: 2 IO (io), 3 IO (io), 5 IO (io), 6 IO (io), 8 IO (io), 10 IO (io), 11 IO (io), 12 IO (io), 13 IO (io), 14 IO (io), 15 IO (io), 42 IO (io), 43 IO (io), 44 IO (io)
part B pins: 18 IO (io), 19 IO (io), 20 IO (io), 21 IO (io), 22 IO (io), 23 IO (io), 25 IO (io), 27 IO (io), 28 IO (io), 30 IO (io), 31 IO (io), 33 IO (io), 34 IO (io), 35 IO (io)
part C pins: 37 INPUT/GCLK1 (in), 38 INPUT/OE1 (in), 39 INPUT/GCLRn (in), 40 INPUT/OE2/GCLK2 (in)
part D pins: 1 TDI/IO (io), 7 TMS/IO (io), 26 TCK/IO (io), 32 TDO/IO (io)
part E pins: 9 VCCIO (2.5 V OR 3.3 V) (power), 17 VCCINT (3.3 V) (power), 29 VCCIO (2.5 V OR 3.3 V) (power), 41 VCCINT (3.3 V) (power)
part F pins: 4 GNDIO (power), 16 GNDINT (power), 24 GNDIO (power), 36 GNDINT (power)
part A text: BANK A
part B text: BANK B

## EPM7032AETC44-7
designator U?
MAX 7000AE 3.3V CPLD, 32 Macrocells, 44-Pin TQFP, Speed Grade 7, Commercial Grade; Published: 23-Sep-2002; LatestRevisionDate: 13-Apr-2006; LatestRevisionNote: IPC-7351 Footprint Added.; DatasheetVersion: ver4.5, Sep-2003; PackageVersion: ver14.3, Jul-2006; PackageReference: TQFP44; Publisher: Altium Limited; PackageDescription: 44-Pin Plastic Thin Quad Flat Pack (TFQP44); Supplier 1: Digi-Key; Supplier Part Number 1: 544-1180-ND; Code_JEDEC: MS-026-ACB; ComponentLink1Description: Manufacturer Link; ComponentLink1URL: http://www.altera.com/products/devices/max7k/m7k-index.html; ComponentLink2Description: Datasheet; ComponentLink2URL: http://www.altera.com/literature/ds/m7000a.pdf; ComponentLink3Description: Packaging Specification; ComponentLink3URL: http://www.altera.com/literature/ds/dspkg.pdf
footprint TQFP44_N (Thin QFP, 44-Leads, Body 10x10mm, Pitch 0.8mm, IPC Medium Density)
footprint TQFP44_L (Thin QFP, 44-Leads, Body 10x10mm, Pitch 0.8mm, IPC High Density)
footprint TQFP44_M (Thin QFP, 44-Leads, Body 10x10mm, Pitch 0.8mm, IPC Low Density)
3D model EPM7032AE-TQFP44 (44-Pin Plastic Thin Quad Flat Pack (TFQP44))
signal-integrity model max7kae (MAX 7000AE)
part A pins: 2 IO (io), 3 IO (io), 5 IO (io), 6 IO (io), 8 IO (io), 10 IO (io), 11 IO (io), 12 IO (io), 13 IO (io), 14 IO (io), 15 IO (io), 42 IO (io), 43 IO (io), 44 IO (io)
part B pins: 18 IO (io), 19 IO (io), 20 IO (io), 21 IO (io), 22 IO (io), 23 IO (io), 25 IO (io), 27 IO (io), 28 IO (io), 30 IO (io), 31 IO (io), 33 IO (io), 34 IO (io), 35 IO (io)
part C pins: 37 INPUT/GCLK1 (in), 38 INPUT/OE1 (in), 39 INPUT/GCLRn (in), 40 INPUT/OE2/GCLK2 (in)
part D pins: 1 TDI/IO (io), 7 TMS/IO (io), 26 TCK/IO (io), 32 TDO/IO (io)
part E pins: 9 VCCIO (2.5 V OR 3.3 V) (power), 17 VCCINT (3.3 V) (power), 29 VCCIO (2.5 V OR 3.3 V) (power), 41 VCCINT (3.3 V) (power)
part F pins: 4 GNDIO (power), 16 GNDINT (power), 24 GNDIO (power), 36 GNDINT (power)
part A text: BANK A
part B text: BANK B

## EPM7032AETC44-7N
designator U?
MAX 7000AE 3.3V CPLD, 32 Macrocells, 44-Pin TQFP, Speed Grade 7, Commercial Grade, Pb-Free; Published: 4-Mar-2005; LatestRevisionDate: 13-Apr-2006; LatestRevisionNote: IPC-7351 Footprint Added.; DatasheetVersion: ver4.5, Sep-2003; PackageVersion: ver14.3, Jul-2006; PackageReference: TQFP44; Publisher: Altium Limited; PackageDescription: 44-Pin Plastic Thin Quad Flat Pack (TFQP44); Supplier 1: Digi-Key; Supplier Part Number 1: 544-1999-ND; Code_JEDEC: MS-026-ACB; ComponentLink1Description: Manufacturer Link; ComponentLink1URL: http://www.altera.com/products/devices/max7k/m7k-index.html; ComponentLink2Description: Datasheet; ComponentLink2URL: http://www.altera.com/literature/ds/m7000a.pdf; ComponentLink3Description: Packaging Specification; ComponentLink3URL: http://www.altera.com/literature/ds/dspkg.pdf
footprint TQFP44_N (Thin QFP, 44-Leads, Body 10x10mm, Pitch 0.8mm, IPC Medium Density)
footprint TQFP44_L (Thin QFP, 44-Leads, Body 10x10mm, Pitch 0.8mm, IPC High Density)
footprint TQFP44_M (Thin QFP, 44-Leads, Body 10x10mm, Pitch 0.8mm, IPC Low Density)
3D model EPM7032AE-TQFP44 (44-Pin Plastic Thin Quad Flat Pack (TFQP44))
signal-integrity model max7kae (MAX 7000AE)
part A pins: 2 IO (io), 3 IO (io), 5 IO (io), 6 IO (io), 8 IO (io), 10 IO (io), 11 IO (io), 12 IO (io), 13 IO (io), 14 IO (io), 15 IO (io), 42 IO (io), 43 IO (io), 44 IO (io)
part B pins: 18 IO (io), 19 IO (io), 20 IO (io), 21 IO (io), 22 IO (io), 23 IO (io), 25 IO (io), 27 IO (io), 28 IO (io), 30 IO (io), 31 IO (io), 33 IO (io), 34 IO (io), 35 IO (io)
part C pins: 37 INPUT/GCLK1 (in), 38 INPUT/OE1 (in), 39 INPUT/GCLRn (in), 40 INPUT/OE2/GCLK2 (in)
part D pins: 1 TDI/IO (io), 7 TMS/IO (io), 26 TCK/IO (io), 32 TDO/IO (io)
part E pins: 9 VCCIO (2.5 V OR 3.3 V) (power), 17 VCCINT (3.3 V) (power), 29 VCCIO (2.5 V OR 3.3 V) (power), 41 VCCINT (3.3 V) (power)
part F pins: 4 GNDIO (power), 16 GNDINT (power), 24 GNDIO (power), 36 GNDINT (power)
part A text: BANK A
part B text: BANK B

## EPM7032AETC44-10
designator U?
MAX 7000AE 3.3V CPLD, 32 Macrocells, 44-Pin TQFP, Speed Grade 10, Commercial Grade; Published: 23-Sep-2002; LatestRevisionDate: 13-Apr-2006; LatestRevisionNote: IPC-7351 Footprint Added.; DatasheetVersion: ver4.5, Sep-2003; PackageVersion: ver14.3, Jul-2006; PackageReference: TQFP44; Publisher: Altium Limited; PackageDescription: 44-Pin Plastic Thin Quad Flat Pack (TFQP44); Supplier 1: Digi-Key; Supplier Part Number 1: 544-1178-ND; Supplier 2: Farnell; Supplier Part Number 2: 4474788; Code_JEDEC: MS-026-ACB; ComponentLink1Description: Manufacturer Link; ComponentLink1URL: http://www.altera.com/products/devices/max7k/m7k-index.html; ComponentLink2Description: Datasheet; ComponentLink2URL: http://www.altera.com/literature/ds/m7000a.pdf; ComponentLink3Description: Packaging Specification; ComponentLink3URL: http://www.altera.com/literature/ds/dspkg.pdf
footprint TQFP44_N (Thin QFP, 44-Leads, Body 10x10mm, Pitch 0.8mm, IPC Medium Density)
footprint TQFP44_L (Thin QFP, 44-Leads, Body 10x10mm, Pitch 0.8mm, IPC High Density)
footprint TQFP44_M (Thin QFP, 44-Leads, Body 10x10mm, Pitch 0.8mm, IPC Low Density)
3D model EPM7032AE-TQFP44 (44-Pin Plastic Thin Quad Flat Pack (TFQP44))
signal-integrity model max7kae (MAX 7000AE)
part A pins: 2 IO (io), 3 IO (io), 5 IO (io), 6 IO (io), 8 IO (io), 10 IO (io), 11 IO (io), 12 IO (io), 13 IO (io), 14 IO (io), 15 IO (io), 42 IO (io), 43 IO (io), 44 IO (io)
part B pins: 18 IO (io), 19 IO (io), 20 IO (io), 21 IO (io), 22 IO (io), 23 IO (io), 25 IO (io), 27 IO (io), 28 IO (io), 30 IO (io), 31 IO (io), 33 IO (io), 34 IO (io), 35 IO (io)
part C pins: 37 INPUT/GCLK1 (in), 38 INPUT/OE1 (in), 39 INPUT/GCLRn (in), 40 INPUT/OE2/GCLK2 (in)
part D pins: 1 TDI/IO (io), 7 TMS/IO (io), 26 TCK/IO (io), 32 TDO/IO (io)
part E pins: 9 VCCIO (2.5 V OR 3.3 V) (power), 17 VCCINT (3.3 V) (power), 29 VCCIO (2.5 V OR 3.3 V) (power), 41 VCCINT (3.3 V) (power)
part F pins: 4 GNDIO (power), 16 GNDINT (power), 24 GNDIO (power), 36 GNDINT (power)
part A text: BANK A
part B text: BANK B

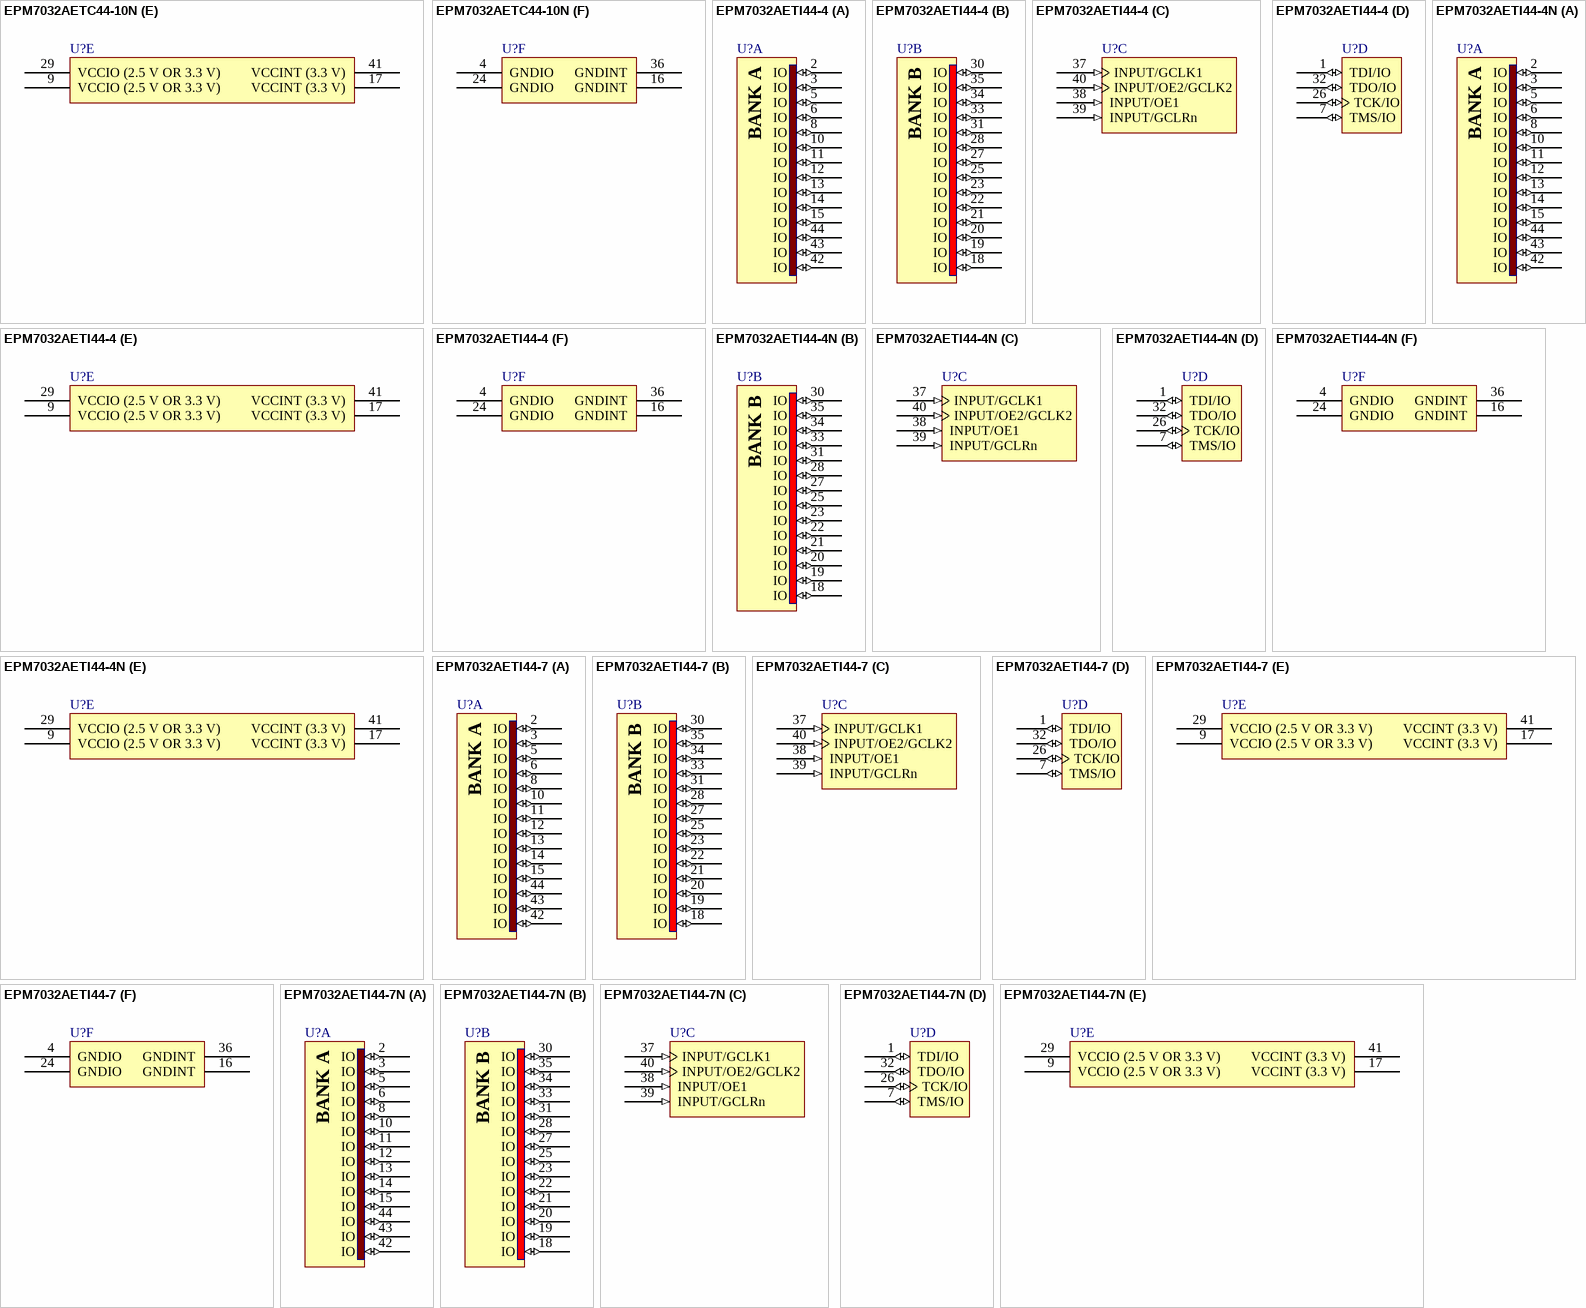
[diagram p4: symbols EPM7032AETC44-10N to EPM7032AETI44-7N]

## EPM7032AETC44-10N
designator U?
MAX 7000AE 3.3V CPLD, 32 Macrocells, 44-Pin TQFP, Speed Grade 10, Commercial Grade, Pb-Free; Published: 4-Mar-2005; LatestRevisionDate: 13-Apr-2006; LatestRevisionNote: IPC-7351 Footprint Added.; DatasheetVersion: ver4.5, Sep-2003; PackageVersion: ver14.3, Jul-2006; PackageReference: TQFP44; Publisher: Altium Limited; PackageDescription: 44-Pin Plastic Thin Quad Flat Pack (TFQP44); Supplier 1: Digi-Key; Supplier Part Number 1: 544-1997-ND; Supplier 2: Farnell; Supplier Part Number 2: 1363028; Code_JEDEC: MS-026-ACB; ComponentLink1Description: Manufacturer Link; ComponentLink1URL: http://www.altera.com/products/devices/max7k/m7k-index.html; ComponentLink2Description: Datasheet; ComponentLink2URL: http://www.altera.com/literature/ds/m7000a.pdf; ComponentLink3Description: Packaging Specification; ComponentLink3URL: http://www.altera.com/literature/ds/dspkg.pdf
footprint TQFP44_N (Thin QFP, 44-Leads, Body 10x10mm, Pitch 0.8mm, IPC Medium Density)
footprint TQFP44_L (Thin QFP, 44-Leads, Body 10x10mm, Pitch 0.8mm, IPC High Density)
footprint TQFP44_M (Thin QFP, 44-Leads, Body 10x10mm, Pitch 0.8mm, IPC Low Density)
3D model EPM7032AE-TQFP44 (44-Pin Plastic Thin Quad Flat Pack (TFQP44))
signal-integrity model max7kae (MAX 7000AE)
part A pins: 2 IO (io), 3 IO (io), 5 IO (io), 6 IO (io), 8 IO (io), 10 IO (io), 11 IO (io), 12 IO (io), 13 IO (io), 14 IO (io), 15 IO (io), 42 IO (io), 43 IO (io), 44 IO (io)
part B pins: 18 IO (io), 19 IO (io), 20 IO (io), 21 IO (io), 22 IO (io), 23 IO (io), 25 IO (io), 27 IO (io), 28 IO (io), 30 IO (io), 31 IO (io), 33 IO (io), 34 IO (io), 35 IO (io)
part C pins: 37 INPUT/GCLK1 (in), 38 INPUT/OE1 (in), 39 INPUT/GCLRn (in), 40 INPUT/OE2/GCLK2 (in)
part D pins: 1 TDI/IO (io), 7 TMS/IO (io), 26 TCK/IO (io), 32 TDO/IO (io)
part E pins: 9 VCCIO (2.5 V OR 3.3 V) (power), 17 VCCINT (3.3 V) (power), 29 VCCIO (2.5 V OR 3.3 V) (power), 41 VCCINT (3.3 V) (power)
part F pins: 4 GNDIO (power), 16 GNDINT (power), 24 GNDIO (power), 36 GNDINT (power)
part A text: BANK A
part B text: BANK B

## EPM7032AETI44-4
designator U?
MAX 7000AE 3.3V CPLD, 32 Macrocells, 44-Pin TQFP, Speed Grade 4, Industrial Grade; Published: 17-Sep-2003; LatestRevisionDate: 13-Apr-2006; LatestRevisionNote: IPC-7351 Footprint Added.; DatasheetVersion: ver4.5, Sep-2003; PackageVersion: ver14.3, Jul-2006; PackageReference: TQFP44; Publisher: Altium Limited; PackageDescription: 44-Pin Plastic Thin Quad Flat Pack (TFQP44); Code_JEDEC: MS-026-ACB; ComponentLink1Description: Manufacturer Link; ComponentLink1URL: http://www.altera.com/products/devices/max7k/m7k-index.html; ComponentLink2Description: Datasheet; ComponentLink2URL: http://www.altera.com/literature/ds/m7000a.pdf; ComponentLink3Description: Packaging Specification; ComponentLink3URL: http://www.altera.com/literature/ds/dspkg.pdf
footprint TQFP44_N (Thin QFP, 44-Leads, Body 10x10mm, Pitch 0.8mm, IPC Medium Density)
footprint TQFP44_L (Thin QFP, 44-Leads, Body 10x10mm, Pitch 0.8mm, IPC High Density)
footprint TQFP44_M (Thin QFP, 44-Leads, Body 10x10mm, Pitch 0.8mm, IPC Low Density)
3D model EPM7032AE-TQFP44 (44-Pin Plastic Thin Quad Flat Pack (TFQP44))
signal-integrity model max7kae (MAX 7000AE)
part A pins: 2 IO (io), 3 IO (io), 5 IO (io), 6 IO (io), 8 IO (io), 10 IO (io), 11 IO (io), 12 IO (io), 13 IO (io), 14 IO (io), 15 IO (io), 42 IO (io), 43 IO (io), 44 IO (io)
part B pins: 18 IO (io), 19 IO (io), 20 IO (io), 21 IO (io), 22 IO (io), 23 IO (io), 25 IO (io), 27 IO (io), 28 IO (io), 30 IO (io), 31 IO (io), 33 IO (io), 34 IO (io), 35 IO (io)
part C pins: 37 INPUT/GCLK1 (in), 38 INPUT/OE1 (in), 39 INPUT/GCLRn (in), 40 INPUT/OE2/GCLK2 (in)
part D pins: 1 TDI/IO (io), 7 TMS/IO (io), 26 TCK/IO (io), 32 TDO/IO (io)
part E pins: 9 VCCIO (2.5 V OR 3.3 V) (power), 17 VCCINT (3.3 V) (power), 29 VCCIO (2.5 V OR 3.3 V) (power), 41 VCCINT (3.3 V) (power)
part F pins: 4 GNDIO (power), 16 GNDINT (power), 24 GNDIO (power), 36 GNDINT (power)
part A text: BANK A
part B text: BANK B

## EPM7032AETI44-4N
designator U?
MAX 7000AE 3.3V CPLD, 32 Macrocells, 44-Pin TQFP, Speed Grade 4, Industrial Grade, Pb-Free; Published: 18-Aug-2005; LatestRevisionDate: 13-Apr-2006; LatestRevisionNote: IPC-7351 Footprint Added.; DatasheetVersion: ver4.5, Sep-2003; PackageVersion: ver14.3, Jul-2006; PackageReference: TQFP44; Publisher: Altium Limited; PackageDescription: 44-Pin Plastic Thin Quad Flat Pack (TFQP44); Code_JEDEC: MS-026-ACB; ComponentLink1Description: Manufacturer Link; ComponentLink1URL: http://www.altera.com/products/devices/max7k/m7k-index.html; ComponentLink2Description: Datasheet; ComponentLink2URL: http://www.altera.com/literature/ds/m7000a.pdf; ComponentLink3Description: Packaging Specification; ComponentLink3URL: http://www.altera.com/literature/ds/dspkg.pdf
footprint TQFP44_N (Thin QFP, 44-Leads, Body 10x10mm, Pitch 0.8mm, IPC Medium Density)
footprint TQFP44_L (Thin QFP, 44-Leads, Body 10x10mm, Pitch 0.8mm, IPC High Density)
footprint TQFP44_M (Thin QFP, 44-Leads, Body 10x10mm, Pitch 0.8mm, IPC Low Density)
3D model EPM7032AE-TQFP44 (44-Pin Plastic Thin Quad Flat Pack (TFQP44))
signal-integrity model max7kae (MAX 7000AE)
part A pins: 2 IO (io), 3 IO (io), 5 IO (io), 6 IO (io), 8 IO (io), 10 IO (io), 11 IO (io), 12 IO (io), 13 IO (io), 14 IO (io), 15 IO (io), 42 IO (io), 43 IO (io), 44 IO (io)
part B pins: 18 IO (io), 19 IO (io), 20 IO (io), 21 IO (io), 22 IO (io), 23 IO (io), 25 IO (io), 27 IO (io), 28 IO (io), 30 IO (io), 31 IO (io), 33 IO (io), 34 IO (io), 35 IO (io)
part C pins: 37 INPUT/GCLK1 (in), 38 INPUT/OE1 (in), 39 INPUT/GCLRn (in), 40 INPUT/OE2/GCLK2 (in)
part D pins: 1 TDI/IO (io), 7 TMS/IO (io), 26 TCK/IO (io), 32 TDO/IO (io)
part E pins: 9 VCCIO (2.5 V OR 3.3 V) (power), 17 VCCINT (3.3 V) (power), 29 VCCIO (2.5 V OR 3.3 V) (power), 41 VCCINT (3.3 V) (power)
part F pins: 4 GNDIO (power), 16 GNDINT (power), 24 GNDIO (power), 36 GNDINT (power)
part A text: BANK A
part B text: BANK B

## EPM7032AETI44-7
designator U?
MAX 7000AE 3.3V CPLD, 32 Macrocells, 44-Pin TQFP, Speed Grade 7, Industrial Grade; Published: 23-Sep-2002; LatestRevisionDate: 13-Apr-2006; LatestRevisionNote: IPC-7351 Footprint Added.; DatasheetVersion: ver4.5, Sep-2003; PackageVersion: ver14.3, Jul-2006; PackageReference: TQFP44; Publisher: Altium Limited; PackageDescription: 44-Pin Plastic Thin Quad Flat Pack (TFQP44); Supplier 1: Digi-Key; Supplier Part Number 1: 544-1181-ND; Supplier 2: Farnell; Supplier Part Number 2: 1609438; Code_JEDEC: MS-026-ACB; ComponentLink1Description: Manufacturer Link; ComponentLink1URL: http://www.altera.com/products/devices/max7k/m7k-index.html; ComponentLink2Description: Datasheet; ComponentLink2URL: http://www.altera.com/literature/ds/m7000a.pdf; ComponentLink3Description: Packaging Specification; ComponentLink3URL: http://www.altera.com/literature/ds/dspkg.pdf
footprint TQFP44_N (Thin QFP, 44-Leads, Body 10x10mm, Pitch 0.8mm, IPC Medium Density)
footprint TQFP44_L (Thin QFP, 44-Leads, Body 10x10mm, Pitch 0.8mm, IPC High Density)
footprint TQFP44_M (Thin QFP, 44-Leads, Body 10x10mm, Pitch 0.8mm, IPC Low Density)
3D model EPM7032AE-TQFP44 (44-Pin Plastic Thin Quad Flat Pack (TFQP44))
signal-integrity model max7kae (MAX 7000AE)
part A pins: 2 IO (io), 3 IO (io), 5 IO (io), 6 IO (io), 8 IO (io), 10 IO (io), 11 IO (io), 12 IO (io), 13 IO (io), 14 IO (io), 15 IO (io), 42 IO (io), 43 IO (io), 44 IO (io)
part B pins: 18 IO (io), 19 IO (io), 20 IO (io), 21 IO (io), 22 IO (io), 23 IO (io), 25 IO (io), 27 IO (io), 28 IO (io), 30 IO (io), 31 IO (io), 33 IO (io), 34 IO (io), 35 IO (io)
part C pins: 37 INPUT/GCLK1 (in), 38 INPUT/OE1 (in), 39 INPUT/GCLRn (in), 40 INPUT/OE2/GCLK2 (in)
part D pins: 1 TDI/IO (io), 7 TMS/IO (io), 26 TCK/IO (io), 32 TDO/IO (io)
part E pins: 9 VCCIO (2.5 V OR 3.3 V) (power), 17 VCCINT (3.3 V) (power), 29 VCCIO (2.5 V OR 3.3 V) (power), 41 VCCINT (3.3 V) (power)
part F pins: 4 GNDIO (power), 16 GNDINT (power), 24 GNDIO (power), 36 GNDINT (power)
part A text: BANK A
part B text: BANK B

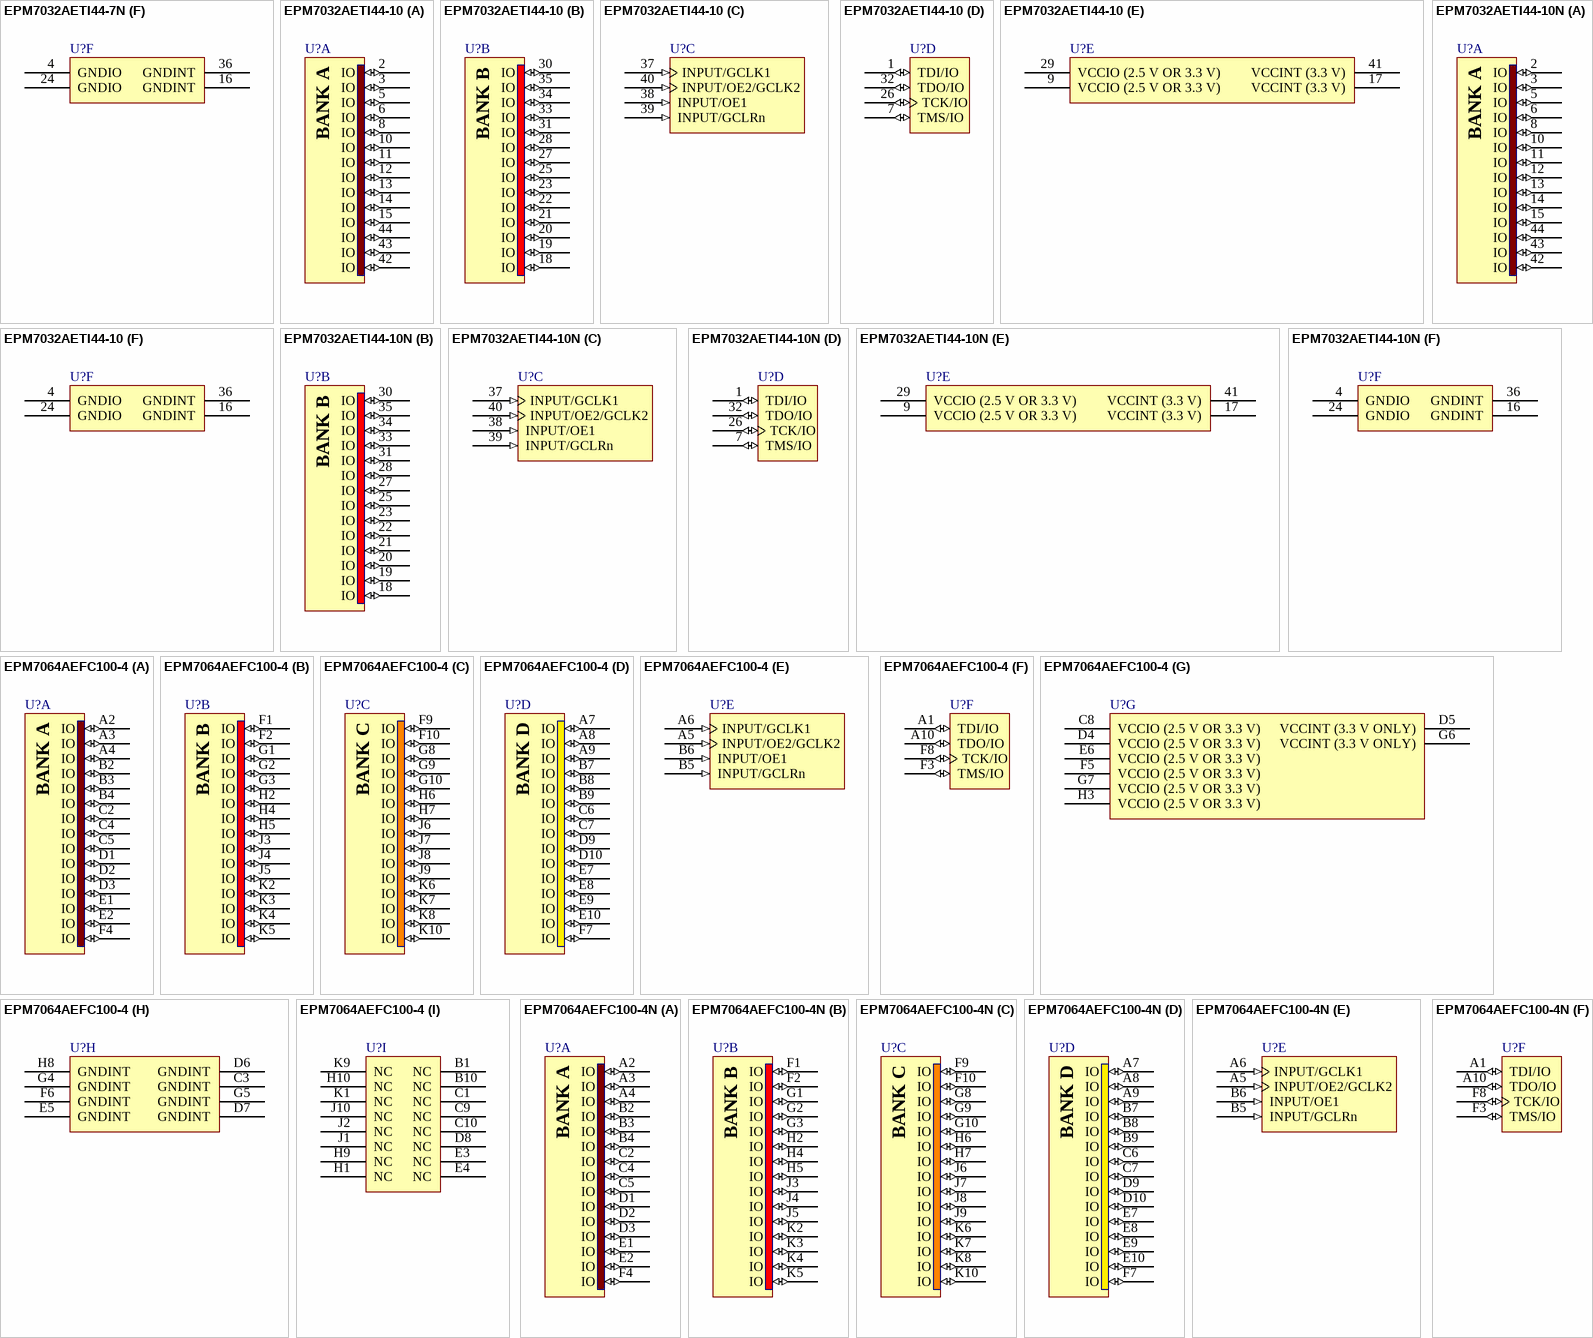
[diagram p5: symbols EPM7032AETI44-7N to EPM7064AEFC100-4N]

## EPM7032AETI44-7N
designator U?
MAX 7000AE 3.3V CPLD, 32 Macrocells, 44-Pin TQFP, Speed Grade 7, Industrial Grade, Pb-Free; Published: 18-Aug-2005; LatestRevisionDate: 13-Apr-2006; LatestRevisionNote: IPC-7351 Footprint Added.; DatasheetVersion: ver4.5, Sep-2003; PackageVersion: ver14.3, Jul-2006; PackageReference: TQFP44; Publisher: Altium Limited; PackageDescription: 44-Pin Plastic Thin Quad Flat Pack (TFQP44); Supplier 1: Digi-Key; Supplier Part Number 1: 544-2000-ND; Code_JEDEC: MS-026-ACB; ComponentLink1Description: Manufacturer Link; ComponentLink1URL: http://www.altera.com/products/devices/max7k/m7k-index.html; ComponentLink2Description: Datasheet; ComponentLink2URL: http://www.altera.com/literature/ds/m7000a.pdf; ComponentLink3Description: Packaging Specification; ComponentLink3URL: http://www.altera.com/literature/ds/dspkg.pdf
footprint TQFP44_N (Thin QFP, 44-Leads, Body 10x10mm, Pitch 0.8mm, IPC Medium Density)
footprint TQFP44_L (Thin QFP, 44-Leads, Body 10x10mm, Pitch 0.8mm, IPC High Density)
footprint TQFP44_M (Thin QFP, 44-Leads, Body 10x10mm, Pitch 0.8mm, IPC Low Density)
3D model EPM7032AE-TQFP44 (44-Pin Plastic Thin Quad Flat Pack (TFQP44))
signal-integrity model max7kae (MAX 7000AE)
part A pins: 2 IO (io), 3 IO (io), 5 IO (io), 6 IO (io), 8 IO (io), 10 IO (io), 11 IO (io), 12 IO (io), 13 IO (io), 14 IO (io), 15 IO (io), 42 IO (io), 43 IO (io), 44 IO (io)
part B pins: 18 IO (io), 19 IO (io), 20 IO (io), 21 IO (io), 22 IO (io), 23 IO (io), 25 IO (io), 27 IO (io), 28 IO (io), 30 IO (io), 31 IO (io), 33 IO (io), 34 IO (io), 35 IO (io)
part C pins: 37 INPUT/GCLK1 (in), 38 INPUT/OE1 (in), 39 INPUT/GCLRn (in), 40 INPUT/OE2/GCLK2 (in)
part D pins: 1 TDI/IO (io), 7 TMS/IO (io), 26 TCK/IO (io), 32 TDO/IO (io)
part E pins: 9 VCCIO (2.5 V OR 3.3 V) (power), 17 VCCINT (3.3 V) (power), 29 VCCIO (2.5 V OR 3.3 V) (power), 41 VCCINT (3.3 V) (power)
part F pins: 4 GNDIO (power), 16 GNDINT (power), 24 GNDIO (power), 36 GNDINT (power)
part A text: BANK A
part B text: BANK B

## EPM7032AETI44-10
designator U?
MAX 7000AE 3.3V CPLD, 32 Macrocells, 44-Pin TQFP, Speed Grade 10, Industrial Grade; Published: 17-Sep-2003; LatestRevisionDate: 13-Apr-2006; LatestRevisionNote: IPC-7351 Footprint Added.; DatasheetVersion: ver4.5, Sep-2003; PackageVersion: ver14.3, Jul-2006; PackageReference: TQFP44; Publisher: Altium Limited; PackageDescription: 44-Pin Plastic Thin Quad Flat Pack (TFQP44); Code_JEDEC: MS-026-ACB; ComponentLink1Description: Manufacturer Link; ComponentLink1URL: http://www.altera.com/products/devices/max7k/m7k-index.html; ComponentLink2Description: Datasheet; ComponentLink2URL: http://www.altera.com/literature/ds/m7000a.pdf; ComponentLink3Description: Packaging Specification; ComponentLink3URL: http://www.altera.com/literature/ds/dspkg.pdf
footprint TQFP44_N (Thin QFP, 44-Leads, Body 10x10mm, Pitch 0.8mm, IPC Medium Density)
footprint TQFP44_L (Thin QFP, 44-Leads, Body 10x10mm, Pitch 0.8mm, IPC High Density)
footprint TQFP44_M (Thin QFP, 44-Leads, Body 10x10mm, Pitch 0.8mm, IPC Low Density)
3D model EPM7032AE-TQFP44 (44-Pin Plastic Thin Quad Flat Pack (TFQP44))
signal-integrity model max7kae (MAX 7000AE)
part A pins: 2 IO (io), 3 IO (io), 5 IO (io), 6 IO (io), 8 IO (io), 10 IO (io), 11 IO (io), 12 IO (io), 13 IO (io), 14 IO (io), 15 IO (io), 42 IO (io), 43 IO (io), 44 IO (io)
part B pins: 18 IO (io), 19 IO (io), 20 IO (io), 21 IO (io), 22 IO (io), 23 IO (io), 25 IO (io), 27 IO (io), 28 IO (io), 30 IO (io), 31 IO (io), 33 IO (io), 34 IO (io), 35 IO (io)
part C pins: 37 INPUT/GCLK1 (in), 38 INPUT/OE1 (in), 39 INPUT/GCLRn (in), 40 INPUT/OE2/GCLK2 (in)
part D pins: 1 TDI/IO (io), 7 TMS/IO (io), 26 TCK/IO (io), 32 TDO/IO (io)
part E pins: 9 VCCIO (2.5 V OR 3.3 V) (power), 17 VCCINT (3.3 V) (power), 29 VCCIO (2.5 V OR 3.3 V) (power), 41 VCCINT (3.3 V) (power)
part F pins: 4 GNDIO (power), 16 GNDINT (power), 24 GNDIO (power), 36 GNDINT (power)
part A text: BANK A
part B text: BANK B

## EPM7032AETI44-10N
designator U?
MAX 7000AE 3.3V CPLD, 32 Macrocells, 44-Pin TQFP, Speed Grade 10, Industrial Grade, Pb-Free; Published: 18-Aug-2005; LatestRevisionDate: 13-Apr-2006; LatestRevisionNote: IPC-7351 Footprint Added.; DatasheetVersion: ver4.5, Sep-2003; PackageVersion: ver14.3, Jul-2006; PackageReference: TQFP44; Publisher: Altium Limited; PackageDescription: 44-Pin Plastic Thin Quad Flat Pack (TFQP44); Code_JEDEC: MS-026-ACB; ComponentLink1Description: Manufacturer Link; ComponentLink1URL: http://www.altera.com/products/devices/max7k/m7k-index.html; ComponentLink2Description: Datasheet; ComponentLink2URL: http://www.altera.com/literature/ds/m7000a.pdf; ComponentLink3Description: Packaging Specification; ComponentLink3URL: http://www.altera.com/literature/ds/dspkg.pdf
footprint TQFP44_N (Thin QFP, 44-Leads, Body 10x10mm, Pitch 0.8mm, IPC Medium Density)
footprint TQFP44_L (Thin QFP, 44-Leads, Body 10x10mm, Pitch 0.8mm, IPC High Density)
footprint TQFP44_M (Thin QFP, 44-Leads, Body 10x10mm, Pitch 0.8mm, IPC Low Density)
3D model EPM7032AE-TQFP44 (44-Pin Plastic Thin Quad Flat Pack (TFQP44))
signal-integrity model max7kae (MAX 7000AE)
part A pins: 2 IO (io), 3 IO (io), 5 IO (io), 6 IO (io), 8 IO (io), 10 IO (io), 11 IO (io), 12 IO (io), 13 IO (io), 14 IO (io), 15 IO (io), 42 IO (io), 43 IO (io), 44 IO (io)
part B pins: 18 IO (io), 19 IO (io), 20 IO (io), 21 IO (io), 22 IO (io), 23 IO (io), 25 IO (io), 27 IO (io), 28 IO (io), 30 IO (io), 31 IO (io), 33 IO (io), 34 IO (io), 35 IO (io)
part C pins: 37 INPUT/GCLK1 (in), 38 INPUT/OE1 (in), 39 INPUT/GCLRn (in), 40 INPUT/OE2/GCLK2 (in)
part D pins: 1 TDI/IO (io), 7 TMS/IO (io), 26 TCK/IO (io), 32 TDO/IO (io)
part E pins: 9 VCCIO (2.5 V OR 3.3 V) (power), 17 VCCINT (3.3 V) (power), 29 VCCIO (2.5 V OR 3.3 V) (power), 41 VCCINT (3.3 V) (power)
part F pins: 4 GNDIO (power), 16 GNDINT (power), 24 GNDIO (power), 36 GNDINT (power)
part A text: BANK A
part B text: BANK B